# Altium footprint library Xilinx.PcbLib: 3 footprints (part 2 of 3)
Each footprint in its own frame and in the unit in brackets; x right, y up, seen from the top. Pads: shape width x height; smd on the part's side, far side on the other; paste and mask are expansions set on the pad; w line width, h text height; cw(c..) or ccw(c..) is an arc to the next point about the centre after c.
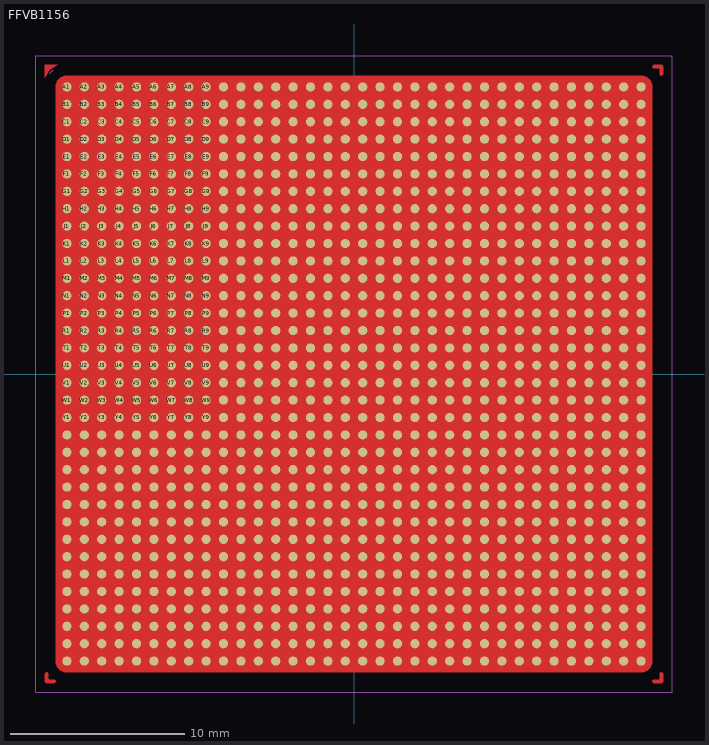
[diagram p1: the footprint, top view; thin cyan lines are the x and y axes]

## FFVB1156 [mm]
height 3.22
pads (1156):
  round 0.533 smd mask+0.051: A1(-16.5,16.5) A2(-15.5,16.5) A3(-14.5,16.5) A4(-13.5,16.5) A5(-12.5,16.5) A6(-11.5,16.5) A7(-10.5,16.5) A8(-9.5,16.5) A9(-8.5,16.5) A10(-7.5,16.5) A11(-6.5,16.5) A12(-5.5,16.5) A13(-4.5,16.5) A14(-3.5,16.5) A15(-2.5,16.5) A16(-1.5,16.5) A17(-0.5,16.5) A18(0.5,16.5) A19(1.5,16.5) A20(2.5,16.5) A21(3.5,16.5) A22(4.5,16.5) A23(5.5,16.5) A24(6.5,16.5) A25(7.5,16.5) A26(8.5,16.5) A27(9.5,16.5) A28(10.5,16.5) A29(11.5,16.5) A30(12.5,16.5) A31(13.5,16.5) A32(14.5,16.5) A33(15.5,16.5) A34(16.5,16.5) AA1(-16.5,-3.5) AA2(-15.5,-3.5) AA3(-14.5,-3.5) AA4(-13.5,-3.5) AA5(-12.5,-3.5) AA6(-11.5,-3.5) AA7(-10.5,-3.5) AA8(-9.5,-3.5) AA9(-8.5,-3.5) AA10(-7.5,-3.5) AA11(-6.5,-3.5) AA12(-5.5,-3.5) AA13(-4.5,-3.5) AA14(-3.5,-3.5) AA15(-2.5,-3.5) AA16(-1.5,-3.5) AA17(-0.5,-3.5) AA18(0.5,-3.5) AA19(1.5,-3.5) AA20(2.5,-3.5) AA21(3.5,-3.5) AA22(4.5,-3.5) AA23(5.5,-3.5) AA24(6.5,-3.5) AA25(7.5,-3.5) AA26(8.5,-3.5) AA27(9.5,-3.5) AA28(10.5,-3.5) AA29(11.5,-3.5) AA30(12.5,-3.5) AA31(13.5,-3.5) AA32(14.5,-3.5) AA33(15.5,-3.5) AA34(16.5,-3.5) AB1(-16.5,-4.5) AB2(-15.5,-4.5) AB3(-14.5,-4.5) AB4(-13.5,-4.5) AB5(-12.5,-4.5) AB6(-11.5,-4.5) AB7(-10.5,-4.5) AB8(-9.5,-4.5) AB9(-8.5,-4.5) AB10(-7.5,-4.5) AB11(-6.5,-4.5) AB12(-5.5,-4.5) AB13(-4.5,-4.5) AB14(-3.5,-4.5) AB15(-2.5,-4.5) AB16(-1.5,-4.5) AB17(-0.5,-4.5) AB18(0.5,-4.5) AB19(1.5,-4.5) AB20(2.5,-4.5) AB21(3.5,-4.5) AB22(4.5,-4.5) AB23(5.5,-4.5) AB24(6.5,-4.5) AB25(7.5,-4.5) AB26(8.5,-4.5) AB27(9.5,-4.5) AB28(10.5,-4.5) AB29(11.5,-4.5) AB30(12.5,-4.5) AB31(13.5,-4.5) AB32(14.5,-4.5) AB33(15.5,-4.5) AB34(16.5,-4.5) AC1(-16.5,-5.5) AC2(-15.5,-5.5) AC3(-14.5,-5.5) AC4(-13.5,-5.5) AC5(-12.5,-5.5) AC6(-11.5,-5.5) AC7(-10.5,-5.5) AC8(-9.5,-5.5) AC9(-8.5,-5.5) AC10(-7.5,-5.5) AC11(-6.5,-5.5) AC12(-5.5,-5.5) AC13(-4.5,-5.5) AC14(-3.5,-5.5) AC15(-2.5,-5.5) AC16(-1.5,-5.5) AC17(-0.5,-5.5) AC18(0.5,-5.5) AC19(1.5,-5.5) AC20(2.5,-5.5) AC21(3.5,-5.5) AC22(4.5,-5.5) AC23(5.5,-5.5) AC24(6.5,-5.5) AC25(7.5,-5.5) AC26(8.5,-5.5) AC27(9.5,-5.5) AC28(10.5,-5.5) AC29(11.5,-5.5) AC30(12.5,-5.5) AC31(13.5,-5.5) AC32(14.5,-5.5) AC33(15.5,-5.5) AC34(16.5,-5.5) AD1(-16.5,-6.5) AD2(-15.5,-6.5) AD3(-14.5,-6.5) AD4(-13.5,-6.5) AD5(-12.5,-6.5) AD6(-11.5,-6.5) AD7(-10.5,-6.5) AD8(-9.5,-6.5) AD9(-8.5,-6.5) AD10(-7.5,-6.5) AD11(-6.5,-6.5) AD12(-5.5,-6.5) AD13(-4.5,-6.5) AD14(-3.5,-6.5) AD15(-2.5,-6.5) AD16(-1.5,-6.5) AD17(-0.5,-6.5) AD18(0.5,-6.5) AD19(1.5,-6.5) AD20(2.5,-6.5) AD21(3.5,-6.5) AD22(4.5,-6.5) AD23(5.5,-6.5) AD24(6.5,-6.5) AD25(7.5,-6.5) AD26(8.5,-6.5) AD27(9.5,-6.5) AD28(10.5,-6.5) AD29(11.5,-6.5) AD30(12.5,-6.5) AD31(13.5,-6.5) AD32(14.5,-6.5) AD33(15.5,-6.5) AD34(16.5,-6.5) AE1(-16.5,-7.5) AE2(-15.5,-7.5) AE3(-14.5,-7.5) AE4(-13.5,-7.5) AE5(-12.5,-7.5) AE6(-11.5,-7.5) AE7(-10.5,-7.5) AE8(-9.5,-7.5) AE9(-8.5,-7.5) AE10(-7.5,-7.5) AE11(-6.5,-7.5) AE12(-5.5,-7.5) AE13(-4.5,-7.5) AE14(-3.5,-7.5) AE15(-2.5,-7.5) AE16(-1.5,-7.5) AE17(-0.5,-7.5) AE18(0.5,-7.5) AE19(1.5,-7.5) AE20(2.5,-7.5) AE21(3.5,-7.5) AE22(4.5,-7.5) AE23(5.5,-7.5) AE24(6.5,-7.5) AE25(7.5,-7.5) AE26(8.5,-7.5) AE27(9.5,-7.5) AE28(10.5,-7.5) AE29(11.5,-7.5) AE30(12.5,-7.5) AE31(13.5,-7.5) AE32(14.5,-7.5) AE33(15.5,-7.5) AE34(16.5,-7.5) AF1(-16.5,-8.5) AF2(-15.5,-8.5) AF3(-14.5,-8.5) AF4(-13.5,-8.5) AF5(-12.5,-8.5) AF6(-11.5,-8.5) AF7(-10.5,-8.5) AF8(-9.5,-8.5) AF9(-8.5,-8.5) AF10(-7.5,-8.5) AF11(-6.5,-8.5) AF12(-5.5,-8.5) AF13(-4.5,-8.5) AF14(-3.5,-8.5) AF15(-2.5,-8.5) AF16(-1.5,-8.5) AF17(-0.5,-8.5) AF18(0.5,-8.5) AF19(1.5,-8.5) AF20(2.5,-8.5) AF21(3.5,-8.5) AF22(4.5,-8.5) AF23(5.5,-8.5) AF24(6.5,-8.5) AF25(7.5,-8.5) AF26(8.5,-8.5) AF27(9.5,-8.5) AF28(10.5,-8.5) AF29(11.5,-8.5) AF30(12.5,-8.5) AF31(13.5,-8.5) AF32(14.5,-8.5) AF33(15.5,-8.5) AF34(16.5,-8.5) AG1(-16.5,-9.5) AG2(-15.5,-9.5) AG3(-14.5,-9.5) AG4(-13.5,-9.5) AG5(-12.5,-9.5) AG6(-11.5,-9.5) AG7(-10.5,-9.5) AG8(-9.5,-9.5) AG9(-8.5,-9.5) AG10(-7.5,-9.5) AG11(-6.5,-9.5) AG12(-5.5,-9.5) AG13(-4.5,-9.5) AG14(-3.5,-9.5) AG15(-2.5,-9.5) AG16(-1.5,-9.5) AG17(-0.5,-9.5) AG18(0.5,-9.5) AG19(1.5,-9.5) AG20(2.5,-9.5) AG21(3.5,-9.5) AG22(4.5,-9.5) AG23(5.5,-9.5) AG24(6.5,-9.5) AG25(7.5,-9.5) AG26(8.5,-9.5) AG27(9.5,-9.5) AG28(10.5,-9.5) AG29(11.5,-9.5) AG30(12.5,-9.5) AG31(13.5,-9.5) AG32(14.5,-9.5) AG33(15.5,-9.5) AG34(16.5,-9.5) AH1(-16.5,-10.5) AH2(-15.5,-10.5) AH3(-14.5,-10.5) AH4(-13.5,-10.5) AH5(-12.5,-10.5) AH6(-11.5,-10.5) AH7(-10.5,-10.5) AH8(-9.5,-10.5) AH9(-8.5,-10.5) AH10(-7.5,-10.5) AH11(-6.5,-10.5) AH12(-5.5,-10.5) AH13(-4.5,-10.5) AH14(-3.5,-10.5) AH15(-2.5,-10.5) AH16(-1.5,-10.5) AH17(-0.5,-10.5) AH18(0.5,-10.5) AH19(1.5,-10.5) AH20(2.5,-10.5) AH21(3.5,-10.5) AH22(4.5,-10.5) AH23(5.5,-10.5) AH24(6.5,-10.5) AH25(7.5,-10.5) AH26(8.5,-10.5) AH27(9.5,-10.5) AH28(10.5,-10.5) AH29(11.5,-10.5) AH30(12.5,-10.5) AH31(13.5,-10.5) AH32(14.5,-10.5) AH33(15.5,-10.5) AH34(16.5,-10.5) AJ1(-16.5,-11.5) AJ2(-15.5,-11.5) AJ3(-14.5,-11.5) AJ4(-13.5,-11.5) AJ5(-12.5,-11.5) AJ6(-11.5,-11.5) AJ7(-10.5,-11.5) AJ8(-9.5,-11.5) AJ9(-8.5,-11.5) AJ10(-7.5,-11.5) AJ11(-6.5,-11.5) AJ12(-5.5,-11.5) AJ13(-4.5,-11.5) AJ14(-3.5,-11.5) AJ15(-2.5,-11.5) AJ16(-1.5,-11.5) AJ17(-0.5,-11.5) AJ18(0.5,-11.5) AJ19(1.5,-11.5) AJ20(2.5,-11.5) AJ21(3.5,-11.5) AJ22(4.5,-11.5) AJ23(5.5,-11.5) AJ24(6.5,-11.5) AJ25(7.5,-11.5) AJ26(8.5,-11.5) AJ27(9.5,-11.5) AJ28(10.5,-11.5) AJ29(11.5,-11.5) AJ30(12.5,-11.5) AJ31(13.5,-11.5) AJ32(14.5,-11.5) AJ33(15.5,-11.5) AJ34(16.5,-11.5) AK1(-16.5,-12.5) AK2(-15.5,-12.5) AK3(-14.5,-12.5) AK4(-13.5,-12.5) AK5(-12.5,-12.5) AK6(-11.5,-12.5) AK7(-10.5,-12.5) AK8(-9.5,-12.5) AK9(-8.5,-12.5) AK10(-7.5,-12.5) AK11(-6.5,-12.5) AK12(-5.5,-12.5) AK13(-4.5,-12.5) AK14(-3.5,-12.5) AK15(-2.5,-12.5) AK16(-1.5,-12.5) AK17(-0.5,-12.5) AK18(0.5,-12.5) AK19(1.5,-12.5) AK20(2.5,-12.5) AK21(3.5,-12.5) AK22(4.5,-12.5) AK23(5.5,-12.5) AK24(6.5,-12.5) AK25(7.5,-12.5) AK26(8.5,-12.5) AK27(9.5,-12.5) AK28(10.5,-12.5) AK29(11.5,-12.5) AK30(12.5,-12.5) AK31(13.5,-12.5) AK32(14.5,-12.5) AK33(15.5,-12.5) AK34(16.5,-12.5) AL1(-16.5,-13.5) AL2(-15.5,-13.5) AL3(-14.5,-13.5) AL4(-13.5,-13.5) AL5(-12.5,-13.5) AL6(-11.5,-13.5) AL7(-10.5,-13.5) AL8(-9.5,-13.5) AL9(-8.5,-13.5) AL10(-7.5,-13.5) AL11(-6.5,-13.5) AL12(-5.5,-13.5) AL13(-4.5,-13.5) AL14(-3.5,-13.5) AL15(-2.5,-13.5) AL16(-1.5,-13.5) AL17(-0.5,-13.5) AL18(0.5,-13.5) AL19(1.5,-13.5) AL20(2.5,-13.5) AL21(3.5,-13.5) AL22(4.5,-13.5) AL23(5.5,-13.5) AL24(6.5,-13.5) AL25(7.5,-13.5) AL26(8.5,-13.5) AL27(9.5,-13.5) AL28(10.5,-13.5) AL29(11.5,-13.5) AL30(12.5,-13.5) AL31(13.5,-13.5) AL32(14.5,-13.5) AL33(15.5,-13.5) AL34(16.5,-13.5) AM1(-16.5,-14.5) AM2(-15.5,-14.5) AM3(-14.5,-14.5) AM4(-13.5,-14.5) AM5(-12.5,-14.5) AM6(-11.5,-14.5) AM7(-10.5,-14.5) AM8(-9.5,-14.5) AM9(-8.5,-14.5) AM10(-7.5,-14.5) AM11(-6.5,-14.5) AM12(-5.5,-14.5) AM13(-4.5,-14.5) AM14(-3.5,-14.5) AM15(-2.5,-14.5) AM16(-1.5,-14.5) AM17(-0.5,-14.5) AM18(0.5,-14.5) AM19(1.5,-14.5) AM20(2.5,-14.5) AM21(3.5,-14.5) AM22(4.5,-14.5) AM23(5.5,-14.5) AM24(6.5,-14.5) AM25(7.5,-14.5) AM26(8.5,-14.5) AM27(9.5,-14.5) AM28(10.5,-14.5) AM29(11.5,-14.5) AM30(12.5,-14.5) AM31(13.5,-14.5) AM32(14.5,-14.5) AM33(15.5,-14.5) AM34(16.5,-14.5) AN1(-16.5,-15.5) AN2(-15.5,-15.5) AN3(-14.5,-15.5) AN4(-13.5,-15.5) AN5(-12.5,-15.5) AN6(-11.5,-15.5) AN7(-10.5,-15.5) AN8(-9.5,-15.5) AN9(-8.5,-15.5) AN10(-7.5,-15.5) AN11(-6.5,-15.5) AN12(-5.5,-15.5) AN13(-4.5,-15.5) AN14(-3.5,-15.5) AN15(-2.5,-15.5) AN16(-1.5,-15.5) AN17(-0.5,-15.5) AN18(0.5,-15.5) AN19(1.5,-15.5) AN20(2.5,-15.5) AN21(3.5,-15.5) AN22(4.5,-15.5) AN23(5.5,-15.5) AN24(6.5,-15.5) AN25(7.5,-15.5) AN26(8.5,-15.5) AN27(9.5,-15.5) AN28(10.5,-15.5) AN29(11.5,-15.5) AN30(12.5,-15.5) AN31(13.5,-15.5) AN32(14.5,-15.5) AN33(15.5,-15.5) AN34(16.5,-15.5) AP1(-16.5,-16.5) AP2(-15.5,-16.5) AP3(-14.5,-16.5) AP4(-13.5,-16.5) AP5(-12.5,-16.5) AP6(-11.5,-16.5) AP7(-10.5,-16.5) AP8(-9.5,-16.5) AP9(-8.5,-16.5) AP10(-7.5,-16.5) AP11(-6.5,-16.5) AP12(-5.5,-16.5) AP13(-4.5,-16.5) AP14(-3.5,-16.5) AP15(-2.5,-16.5) AP16(-1.5,-16.5) AP17(-0.5,-16.5) AP18(0.5,-16.5) AP19(1.5,-16.5) AP20(2.5,-16.5) AP21(3.5,-16.5) AP22(4.5,-16.5) AP23(5.5,-16.5) AP24(6.5,-16.5) AP25(7.5,-16.5) AP26(8.5,-16.5) AP27(9.5,-16.5) AP28(10.5,-16.5) AP29(11.5,-16.5) AP30(12.5,-16.5) AP31(13.5,-16.5) AP32(14.5,-16.5) AP33(15.5,-16.5) AP34(16.5,-16.5) B1(-16.5,15.5) B2(-15.5,15.5) B3(-14.5,15.5) B4(-13.5,15.5) B5(-12.5,15.5) B6(-11.5,15.5) B7(-10.5,15.5) B8(-9.5,15.5) B9(-8.5,15.5) B10(-7.5,15.5) B11(-6.5,15.5) B12(-5.5,15.5) B13(-4.5,15.5) B14(-3.5,15.5) B15(-2.5,15.5) B16(-1.5,15.5) B17(-0.5,15.5) B18(0.5,15.5) B19(1.5,15.5) B20(2.5,15.5) B21(3.5,15.5) B22(4.5,15.5) B23(5.5,15.5) B24(6.5,15.5) B25(7.5,15.5) B26(8.5,15.5) B27(9.5,15.5) B28(10.5,15.5) B29(11.5,15.5) B30(12.5,15.5) B31(13.5,15.5) B32(14.5,15.5) B33(15.5,15.5) B34(16.5,15.5) C1(-16.5,14.5) C2(-15.5,14.5) C3(-14.5,14.5) C4(-13.5,14.5) C5(-12.5,14.5) C6(-11.5,14.5) C7(-10.5,14.5) C8(-9.5,14.5) C9(-8.5,14.5) C10(-7.5,14.5) C11(-6.5,14.5) C12(-5.5,14.5) C13(-4.5,14.5) C14(-3.5,14.5) C15(-2.5,14.5) C16(-1.5,14.5) C17(-0.5,14.5) C18(0.5,14.5) C19(1.5,14.5) C20(2.5,14.5) C21(3.5,14.5) C22(4.5,14.5) C23(5.5,14.5) C24(6.5,14.5) C25(7.5,14.5) C26(8.5,14.5) C27(9.5,14.5) C28(10.5,14.5) C29(11.5,14.5) C30(12.5,14.5) C31(13.5,14.5) C32(14.5,14.5) C33(15.5,14.5) C34(16.5,14.5) D1(-16.5,13.5) D2(-15.5,13.5) D3(-14.5,13.5) D4(-13.5,13.5) D5(-12.5,13.5) D6(-11.5,13.5) D7(-10.5,13.5) D8(-9.5,13.5) D9(-8.5,13.5) D10(-7.5,13.5) D11(-6.5,13.5) D12(-5.5,13.5) D13(-4.5,13.5) D14(-3.5,13.5) D15(-2.5,13.5) D16(-1.5,13.5) D17(-0.5,13.5) D18(0.5,13.5) D19(1.5,13.5) D20(2.5,13.5) D21(3.5,13.5) D22(4.5,13.5) D23(5.5,13.5) D24(6.5,13.5) D25(7.5,13.5) D26(8.5,13.5) D27(9.5,13.5) D28(10.5,13.5) D29(11.5,13.5) D30(12.5,13.5) D31(13.5,13.5) D32(14.5,13.5) D33(15.5,13.5) D34(16.5,13.5) E1(-16.5,12.5) E2(-15.5,12.5) E3(-14.5,12.5) E4(-13.5,12.5) E5(-12.5,12.5) E6(-11.5,12.5) E7(-10.5,12.5) E8(-9.5,12.5) E9(-8.5,12.5) E10(-7.5,12.5) E11(-6.5,12.5) E12(-5.5,12.5) E13(-4.5,12.5) E14(-3.5,12.5) E15(-2.5,12.5) E16(-1.5,12.5) E17(-0.5,12.5) E18(0.5,12.5) E19(1.5,12.5) E20(2.5,12.5) E21(3.5,12.5) E22(4.5,12.5) E23(5.5,12.5) E24(6.5,12.5) E25(7.5,12.5) E26(8.5,12.5) E27(9.5,12.5) E28(10.5,12.5) E29(11.5,12.5) E30(12.5,12.5) E31(13.5,12.5) E32(14.5,12.5) E33(15.5,12.5) E34(16.5,12.5) F1(-16.5,11.5) F2(-15.5,11.5) F3(-14.5,11.5) F4(-13.5,11.5) F5(-12.5,11.5) F6(-11.5,11.5) F7(-10.5,11.5) F8(-9.5,11.5) F9(-8.5,11.5) F10(-7.5,11.5) F11(-6.5,11.5) F12(-5.5,11.5) F13(-4.5,11.5) F14(-3.5,11.5) F15(-2.5,11.5) F16(-1.5,11.5) F17(-0.5,11.5) F18(0.5,11.5) F19(1.5,11.5) F20(2.5,11.5) F21(3.5,11.5) F22(4.5,11.5) F23(5.5,11.5) F24(6.5,11.5) F25(7.5,11.5) F26(8.5,11.5) F27(9.5,11.5) F28(10.5,11.5) F29(11.5,11.5) F30(12.5,11.5) F31(13.5,11.5) F32(14.5,11.5) F33(15.5,11.5) F34(16.5,11.5) G1(-16.5,10.5) G2(-15.5,10.5) G3(-14.5,10.5) G4(-13.5,10.5) G5(-12.5,10.5) G6(-11.5,10.5) G7(-10.5,10.5) G8(-9.5,10.5) G9(-8.5,10.5) G10(-7.5,10.5) G11(-6.5,10.5) G12(-5.5,10.5) G13(-4.5,10.5) G14(-3.5,10.5) G15(-2.5,10.5) G16(-1.5,10.5) G17(-0.5,10.5) G18(0.5,10.5) G19(1.5,10.5) G20(2.5,10.5) G21(3.5,10.5) G22(4.5,10.5) G23(5.5,10.5) G24(6.5,10.5) G25(7.5,10.5) G26(8.5,10.5) G27(9.5,10.5) G28(10.5,10.5) G29(11.5,10.5) G30(12.5,10.5) G31(13.5,10.5) G32(14.5,10.5) G33(15.5,10.5) G34(16.5,10.5) H1(-16.5,9.5) H2(-15.5,9.5) H3(-14.5,9.5) H4(-13.5,9.5) H5(-12.5,9.5) H6(-11.5,9.5) H7(-10.5,9.5) H8(-9.5,9.5) H9(-8.5,9.5) H10(-7.5,9.5) H11(-6.5,9.5) H12(-5.5,9.5) H13(-4.5,9.5) H14(-3.5,9.5) H15(-2.5,9.5) H16(-1.5,9.5) H17(-0.5,9.5) H18(0.5,9.5) H19(1.5,9.5) H20(2.5,9.5) H21(3.5,9.5) H22(4.5,9.5) H23(5.5,9.5) H24(6.5,9.5) H25(7.5,9.5) H26(8.5,9.5) H27(9.5,9.5) H28(10.5,9.5) H29(11.5,9.5) H30(12.5,9.5) H31(13.5,9.5) H32(14.5,9.5) H33(15.5,9.5) H34(16.5,9.5) J1(-16.5,8.5) J2(-15.5,8.5) J3(-14.5,8.5) J4(-13.5,8.5) J5(-12.5,8.5) J6(-11.5,8.5) J7(-10.5,8.5) J8(-9.5,8.5) J9(-8.5,8.5) J10(-7.5,8.5) J11(-6.5,8.5) J12(-5.5,8.5) J13(-4.5,8.5) J14(-3.5,8.5) J15(-2.5,8.5) J16(-1.5,8.5) J17(-0.5,8.5) J18(0.5,8.5) J19(1.5,8.5) J20(2.5,8.5) J21(3.5,8.5) J22(4.5,8.5) J23(5.5,8.5) J24(6.5,8.5) J25(7.5,8.5) J26(8.5,8.5) J27(9.5,8.5) J28(10.5,8.5) J29(11.5,8.5) J30(12.5,8.5) J31(13.5,8.5) J32(14.5,8.5) J33(15.5,8.5) J34(16.5,8.5) K1(-16.5,7.5) K2(-15.5,7.5) K3(-14.5,7.5) K4(-13.5,7.5) K5(-12.5,7.5) K6(-11.5,7.5) K7(-10.5,7.5) K8(-9.5,7.5) K9(-8.5,7.5) K10(-7.5,7.5) K11(-6.5,7.5) K12(-5.5,7.5) K13(-4.5,7.5) K14(-3.5,7.5) K15(-2.5,7.5) K16(-1.5,7.5) K17(-0.5,7.5) K18(0.5,7.5) K19(1.5,7.5) K20(2.5,7.5) K21(3.5,7.5) K22(4.5,7.5) K23(5.5,7.5) K24(6.5,7.5) K25(7.5,7.5) K26(8.5,7.5) K27(9.5,7.5) K28(10.5,7.5) K29(11.5,7.5) K30(12.5,7.5) K31(13.5,7.5) K32(14.5,7.5) K33(15.5,7.5) K34(16.5,7.5) L1(-16.5,6.5) L2(-15.5,6.5) L3(-14.5,6.5) L4(-13.5,6.5) L5(-12.5,6.5) L6(-11.5,6.5) L7(-10.5,6.5) L8(-9.5,6.5) L9(-8.5,6.5) L10(-7.5,6.5) L11(-6.5,6.5) L12(-5.5,6.5) L13(-4.5,6.5) L14(-3.5,6.5) L15(-2.5,6.5) L16(-1.5,6.5) L17(-0.5,6.5) L18(0.5,6.5) L19(1.5,6.5) L20(2.5,6.5) L21(3.5,6.5) L22(4.5,6.5) L23(5.5,6.5) L24(6.5,6.5) L25(7.5,6.5) L26(8.5,6.5) L27(9.5,6.5) L28(10.5,6.5) L29(11.5,6.5) L30(12.5,6.5) L31(13.5,6.5) L32(14.5,6.5) L33(15.5,6.5) L34(16.5,6.5) M1(-16.5,5.5) M2(-15.5,5.5) M3(-14.5,5.5) M4(-13.5,5.5) M5(-12.5,5.5) M6(-11.5,5.5) M7(-10.5,5.5) M8(-9.5,5.5) M9(-8.5,5.5) M10(-7.5,5.5) M11(-6.5,5.5) M12(-5.5,5.5) M13(-4.5,5.5) M14(-3.5,5.5) M15(-2.5,5.5) M16(-1.5,5.5) M17(-0.5,5.5) M18(0.5,5.5) M19(1.5,5.5) M20(2.5,5.5) M21(3.5,5.5) M22(4.5,5.5) M23(5.5,5.5) M24(6.5,5.5) M25(7.5,5.5) M26(8.5,5.5) M27(9.5,5.5) M28(10.5,5.5) M29(11.5,5.5) M30(12.5,5.5) M31(13.5,5.5) M32(14.5,5.5) M33(15.5,5.5) M34(16.5,5.5) N1(-16.5,4.5) N2(-15.5,4.5) N3(-14.5,4.5) N4(-13.5,4.5) N5(-12.5,4.5) N6(-11.5,4.5) N7(-10.5,4.5) N8(-9.5,4.5) N9(-8.5,4.5) N10(-7.5,4.5) N11(-6.5,4.5) N12(-5.5,4.5) N13(-4.5,4.5) N14(-3.5,4.5) N15(-2.5,4.5) N16(-1.5,4.5) N17(-0.5,4.5) N18(0.5,4.5) N19(1.5,4.5) N20(2.5,4.5) N21(3.5,4.5) N22(4.5,4.5) N23(5.5,4.5) N24(6.5,4.5) N25(7.5,4.5) N26(8.5,4.5) N27(9.5,4.5) N28(10.5,4.5) N29(11.5,4.5) N30(12.5,4.5) N31(13.5,4.5) N32(14.5,4.5) N33(15.5,4.5) N34(16.5,4.5) P1(-16.5,3.5) P2(-15.5,3.5) P3(-14.5,3.5) P4(-13.5,3.5) P5(-12.5,3.5) P6(-11.5,3.5) P7(-10.5,3.5) P8(-9.5,3.5) P9(-8.5,3.5) P10(-7.5,3.5) P11(-6.5,3.5) P12(-5.5,3.5) P13(-4.5,3.5) P14(-3.5,3.5) P15(-2.5,3.5) P16(-1.5,3.5) P17(-0.5,3.5) P18(0.5,3.5) P19(1.5,3.5) P20(2.5,3.5) P21(3.5,3.5) P22(4.5,3.5) P23(5.5,3.5) P24(6.5,3.5) P25(7.5,3.5) P26(8.5,3.5) P27(9.5,3.5) P28(10.5,3.5) P29(11.5,3.5) P30(12.5,3.5) P31(13.5,3.5) P32(14.5,3.5) P33(15.5,3.5) P34(16.5,3.5) R1(-16.5,2.5) R2(-15.5,2.5) R3(-14.5,2.5) R4(-13.5,2.5) R5(-12.5,2.5) R6(-11.5,2.5) R7(-10.5,2.5) R8(-9.5,2.5) R9(-8.5,2.5) R10(-7.5,2.5) R11(-6.5,2.5) R12(-5.5,2.5) R13(-4.5,2.5) R14(-3.5,2.5) R15(-2.5,2.5) R16(-1.5,2.5) R17(-0.5,2.5) R18(0.5,2.5) R19(1.5,2.5) R20(2.5,2.5) R21(3.5,2.5) R22(4.5,2.5) R23(5.5,2.5) R24(6.5,2.5) R25(7.5,2.5) R26(8.5,2.5) R27(9.5,2.5) R28(10.5,2.5) R29(11.5,2.5) R30(12.5,2.5) R31(13.5,2.5) R32(14.5,2.5) R33(15.5,2.5) R34(16.5,2.5) T1(-16.5,1.5) T2(-15.5,1.5) T3(-14.5,1.5) T4(-13.5,1.5) T5(-12.5,1.5) T6(-11.5,1.5) T7(-10.5,1.5) T8(-9.5,1.5) T9(-8.5,1.5) T10(-7.5,1.5) T11(-6.5,1.5) T12(-5.5,1.5) T13(-4.5,1.5) T14(-3.5,1.5) T15(-2.5,1.5) T16(-1.5,1.5) T17(-0.5,1.5) T18(0.5,1.5) T19(1.5,1.5) T20(2.5,1.5) T21(3.5,1.5) T22(4.5,1.5) T23(5.5,1.5) T24(6.5,1.5) T25(7.5,1.5) T26(8.5,1.5) T27(9.5,1.5) T28(10.5,1.5) T29(11.5,1.5) T30(12.5,1.5) T31(13.5,1.5) T32(14.5,1.5) T33(15.5,1.5) T34(16.5,1.5) U1(-16.5,0.5) U2(-15.5,0.5) U3(-14.5,0.5) U4(-13.5,0.5) U5(-12.5,0.5) U6(-11.5,0.5) U7(-10.5,0.5) U8(-9.5,0.5) U9(-8.5,0.5) U10(-7.5,0.5) U11(-6.5,0.5) U12(-5.5,0.5) U13(-4.5,0.5) U14(-3.5,0.5) U15(-2.5,0.5) U16(-1.5,0.5) U17(-0.5,0.5) U18(0.5,0.5) U19(1.5,0.5) U20(2.5,0.5) U21(3.5,0.5) U22(4.5,0.5) U23(5.5,0.5) U24(6.5,0.5) U25(7.5,0.5) U26(8.5,0.5) U27(9.5,0.5) U28(10.5,0.5) U29(11.5,0.5) U30(12.5,0.5) U31(13.5,0.5) U32(14.5,0.5) U33(15.5,0.5) U34(16.5,0.5) V1(-16.5,-0.5) V2(-15.5,-0.5) V3(-14.5,-0.5) V4(-13.5,-0.5) V5(-12.5,-0.5) V6(-11.5,-0.5) V7(-10.5,-0.5) V8(-9.5,-0.5) V9(-8.5,-0.5) V10(-7.5,-0.5) V11(-6.5,-0.5) V12(-5.5,-0.5) V13(-4.5,-0.5) V14(-3.5,-0.5) V15(-2.5,-0.5) V16(-1.5,-0.5) V17(-0.5,-0.5) V18(0.5,-0.5) V19(1.5,-0.5) V20(2.5,-0.5) V21(3.5,-0.5) V22(4.5,-0.5) V23(5.5,-0.5) V24(6.5,-0.5) V25(7.5,-0.5) V26(8.5,-0.5) V27(9.5,-0.5) V28(10.5,-0.5) V29(11.5,-0.5) V30(12.5,-0.5) V31(13.5,-0.5) V32(14.5,-0.5) V33(15.5,-0.5) V34(16.5,-0.5) W1(-16.5,-1.5) W2(-15.5,-1.5) W3(-14.5,-1.5) W4(-13.5,-1.5) W5(-12.5,-1.5) W6(-11.5,-1.5) W7(-10.5,-1.5) W8(-9.5,-1.5) W9(-8.5,-1.5) W10(-7.5,-1.5) W11(-6.5,-1.5) W12(-5.5,-1.5) W13(-4.5,-1.5) W14(-3.5,-1.5) W15(-2.5,-1.5) W16(-1.5,-1.5) W17(-0.5,-1.5) W18(0.5,-1.5) W19(1.5,-1.5) W20(2.5,-1.5) W21(3.5,-1.5) W22(4.5,-1.5) W23(5.5,-1.5) W24(6.5,-1.5) W25(7.5,-1.5) W26(8.5,-1.5) W27(9.5,-1.5) W28(10.5,-1.5) W29(11.5,-1.5) W30(12.5,-1.5) W31(13.5,-1.5) W32(14.5,-1.5) W33(15.5,-1.5) W34(16.5,-1.5) Y1(-16.5,-2.5) Y2(-15.5,-2.5) Y3(-14.5,-2.5) Y4(-13.5,-2.5) Y5(-12.5,-2.5) Y6(-11.5,-2.5) Y7(-10.5,-2.5) Y8(-9.5,-2.5) Y9(-8.5,-2.5) Y10(-7.5,-2.5) Y11(-6.5,-2.5) Y12(-5.5,-2.5) Y13(-4.5,-2.5) Y14(-3.5,-2.5) Y15(-2.5,-2.5) Y16(-1.5,-2.5) Y17(-0.5,-2.5) Y18(0.5,-2.5) Y19(1.5,-2.5) Y20(2.5,-2.5) Y21(3.5,-2.5) Y22(4.5,-2.5) Y23(5.5,-2.5) Y24(6.5,-2.5) Y25(7.5,-2.5) Y26(8.5,-2.5) Y27(9.5,-2.5) Y28(10.5,-2.5) Y29(11.5,-2.5) Y30(12.5,-2.5) Y31(13.5,-2.5) Y32(14.5,-2.5) Y33(15.5,-2.5) Y34(16.5,-2.5)
Top Layer:
  region: -17.766,17.766 -17.766,17.041 -17.5,17.5 -17.041,17.766
  pour cut-out: -16.5,17.145 -16.628,17.145 -16.865,17.047 -17.047,16.865 -17.145,16.628 -17.145,16.5 -17.145,-16.5 -17.145,-16.628 -17.047,-16.865 -16.865,-17.047 -16.628,-17.145 -16.5,-17.145 16.5,-17.145 16.628,-17.145 16.865,-17.047 17.047,-16.865 17.145,-16.628 17.145,-16.5 17.145,16.5 17.145,16.628 17.047,16.865 16.865,17.047 16.628,17.145 16.5,17.145
  region: 17.563,17.258 17.563,17.238 17.578,17.2 17.607,17.172 17.644,17.156 17.664,17.156 17.684,17.156 17.722,17.172 17.75,17.2 17.766,17.238 17.766,17.258 17.766,17.664 17.766,17.684 17.75,17.722 17.722,17.75 17.684,17.766 17.664,17.766 17.258,17.766 17.238,17.766 17.2,17.75 17.172,17.722 17.156,17.684 17.156,17.664 17.156,17.644 17.172,17.607 17.2,17.578 17.238,17.563 17.258,17.563 17.512,17.563 17.522,17.562 17.54,17.554 17.554,17.54 17.562,17.522 17.563,17.512
  region: 17.258,-17.563 17.238,-17.563 17.2,-17.578 17.172,-17.607 17.156,-17.644 17.156,-17.664 17.156,-17.684 17.172,-17.722 17.2,-17.75 17.238,-17.766 17.258,-17.766 17.664,-17.766 17.684,-17.766 17.722,-17.75 17.75,-17.722 17.766,-17.684 17.766,-17.664 17.766,-17.258 17.766,-17.238 17.75,-17.2 17.722,-17.172 17.684,-17.156 17.664,-17.156 17.644,-17.156 17.607,-17.172 17.578,-17.2 17.563,-17.238 17.563,-17.258 17.563,-17.512 17.562,-17.522 17.554,-17.54 17.54,-17.554 17.522,-17.562 17.512,-17.563
  region: -17.563,-17.258 -17.563,-17.238 -17.578,-17.2 -17.607,-17.172 -17.644,-17.156 -17.664,-17.156 -17.684,-17.156 -17.722,-17.172 -17.75,-17.2 -17.766,-17.238 -17.766,-17.258 -17.766,-17.664 -17.766,-17.684 -17.75,-17.722 -17.722,-17.75 -17.684,-17.766 -17.664,-17.766 -17.258,-17.766 -17.238,-17.766 -17.2,-17.75 -17.172,-17.722 -17.156,-17.684 -17.156,-17.664 -17.156,-17.644 -17.172,-17.607 -17.2,-17.578 -17.238,-17.563 -17.258,-17.563 -17.512,-17.563 -17.522,-17.562 -17.54,-17.554 -17.554,-17.54 -17.562,-17.522 -17.563,-17.512
Top Designator:
  text ".Designator" at -3.242,-0.317 h0.89
Top Courtyard:
  lines w0.025: -18.288,-18.288 18.288,-18.288 18.288,18.288 -18.288,18.288 -18.288,-18.288
Top Component Outline:
  lines w0.025: -17.5,17.297 -17.297,17.5 ; -15,14 -14,15
3D body: height 3.22, standoff 2.4, extent -15,-15 15,15
3D body: height 0.55, standoff -0.05, extent -8.798,7.2 -8.202,7.8
3D body: height 0.55, standoff -0.05, extent -9.798,7.2 -9.202,7.8
3D body: height 0.55, standoff -0.05, extent -10.798,7.2 -10.202,7.8
3D body: height 0.55, standoff -0.05, extent -11.798,7.2 -11.202,7.8
3D body: height 0.55, standoff -0.05, extent -12.798,7.2 -12.202,7.8
3D body: height 0.55, standoff -0.05, extent -13.798,7.2 -13.202,7.8
3D body: height 0.55, standoff -0.05, extent -14.798,7.2 -14.202,7.8
3D body: height 0.55, standoff -0.05, extent -15.798,7.2 -15.202,7.8
3D body: height 0.55, standoff -0.05, extent -16.798,7.2 -16.202,7.8
3D body: height 0.55, standoff -0.05, extent 0.202,7.2 0.798,7.8
3D body: height 0.55, standoff -0.05, extent -0.798,7.2 -0.202,7.8
3D body: height 0.55, standoff -0.05, extent -1.798,7.2 -1.202,7.8
3D body: height 0.55, standoff -0.05, extent -2.798,7.2 -2.202,7.8
3D body: height 0.55, standoff -0.05, extent -3.798,7.2 -3.202,7.8
3D body: height 0.55, standoff -0.05, extent -4.798,7.2 -4.202,7.8
3D body: height 0.55, standoff -0.05, extent -5.798,7.2 -5.202,7.8
3D body: height 0.55, standoff -0.05, extent -6.798,7.2 -6.202,7.8
3D body: height 0.55, standoff -0.05, extent -7.798,7.2 -7.202,7.8
3D body: height 0.55, standoff -0.05, extent 8.202,7.2 8.798,7.8
3D body: height 0.55, standoff -0.05, extent 7.202,7.2 7.798,7.8
3D body: height 0.55, standoff -0.05, extent 6.202,7.2 6.798,7.8
3D body: height 0.55, standoff -0.05, extent 5.202,7.2 5.798,7.8
3D body: height 0.55, standoff -0.05, extent 4.202,7.2 4.798,7.8
3D body: height 0.55, standoff -0.05, extent 3.202,7.2 3.798,7.8
3D body: height 0.55, standoff -0.05, extent 2.202,7.2 2.798,7.8
3D body: height 0.55, standoff -0.05, extent 1.202,7.2 1.798,7.8
3D body: height 0.55, standoff -0.05, extent -8.798,8.2 -8.202,8.8
3D body: height 0.55, standoff -0.05, extent -9.798,8.2 -9.202,8.8
3D body: height 0.55, standoff -0.05, extent -10.798,8.2 -10.202,8.8
3D body: height 0.55, standoff -0.05, extent -11.798,8.2 -11.202,8.8
3D body: height 0.55, standoff -0.05, extent -12.798,8.2 -12.202,8.8
3D body: height 0.55, standoff -0.05, extent -13.798,8.2 -13.202,8.8
3D body: height 0.55, standoff -0.05, extent -14.798,8.2 -14.202,8.8
3D body: height 0.55, standoff -0.05, extent -15.798,8.2 -15.202,8.8
3D body: height 0.55, standoff -0.05, extent -16.798,8.2 -16.202,8.8
3D body: height 0.55, standoff -0.05, extent 0.202,8.2 0.798,8.8
3D body: height 0.55, standoff -0.05, extent -0.798,8.2 -0.202,8.8
3D body: height 0.55, standoff -0.05, extent -1.798,8.2 -1.202,8.8
3D body: height 0.55, standoff -0.05, extent -2.798,8.2 -2.202,8.8
3D body: height 0.55, standoff -0.05, extent -3.798,8.2 -3.202,8.8
3D body: height 0.55, standoff -0.05, extent -4.798,8.2 -4.202,8.8
3D body: height 0.55, standoff -0.05, extent -5.798,8.2 -5.202,8.8
3D body: height 0.55, standoff -0.05, extent -6.798,8.2 -6.202,8.8
3D body: height 0.55, standoff -0.05, extent -7.798,8.2 -7.202,8.8
3D body: height 0.55, standoff -0.05, extent 8.202,8.2 8.798,8.8
3D body: height 0.55, standoff -0.05, extent 7.202,8.2 7.798,8.8
3D body: height 0.55, standoff -0.05, extent 6.202,8.2 6.798,8.8
3D body: height 0.55, standoff -0.05, extent 5.202,8.2 5.798,8.8
3D body: height 0.55, standoff -0.05, extent 4.202,8.2 4.798,8.8
3D body: height 0.55, standoff -0.05, extent 3.202,8.2 3.798,8.8
3D body: height 0.55, standoff -0.05, extent 2.202,8.2 2.798,8.8
3D body: height 0.55, standoff -0.05, extent 1.202,8.2 1.798,8.8
3D body: height 0.55, standoff -0.05, extent -8.798,9.2 -8.202,9.8
3D body: height 0.55, standoff -0.05, extent -9.798,9.2 -9.202,9.8
3D body: height 0.55, standoff -0.05, extent -10.798,9.2 -10.202,9.8
3D body: height 0.55, standoff -0.05, extent -11.798,9.2 -11.202,9.8
3D body: height 0.55, standoff -0.05, extent -12.798,9.2 -12.202,9.8
3D body: height 0.55, standoff -0.05, extent -13.798,9.2 -13.202,9.8
3D body: height 0.55, standoff -0.05, extent -14.798,9.2 -14.202,9.8
3D body: height 0.55, standoff -0.05, extent -15.798,9.2 -15.202,9.8
3D body: height 0.55, standoff -0.05, extent -16.798,9.2 -16.202,9.8
3D body: height 0.55, standoff -0.05, extent 0.202,9.2 0.798,9.8
3D body: height 0.55, standoff -0.05, extent -0.798,9.2 -0.202,9.8
3D body: height 0.55, standoff -0.05, extent -1.798,9.2 -1.202,9.8
3D body: height 0.55, standoff -0.05, extent -2.798,9.2 -2.202,9.8
3D body: height 0.55, standoff -0.05, extent -3.798,9.2 -3.202,9.8
3D body: height 0.55, standoff -0.05, extent -4.798,9.2 -4.202,9.8
3D body: height 0.55, standoff -0.05, extent -5.798,9.2 -5.202,9.8
3D body: height 0.55, standoff -0.05, extent -6.798,9.2 -6.202,9.8
3D body: height 0.55, standoff -0.05, extent -7.798,9.2 -7.202,9.8
3D body: height 0.55, standoff -0.05, extent 8.202,9.2 8.798,9.8
3D body: height 0.55, standoff -0.05, extent 7.202,9.2 7.798,9.8
3D body: height 0.55, standoff -0.05, extent 6.202,9.2 6.798,9.8
3D body: height 0.55, standoff -0.05, extent 5.202,9.2 5.798,9.8
3D body: height 0.55, standoff -0.05, extent 4.202,9.2 4.798,9.8
3D body: height 0.55, standoff -0.05, extent 3.202,9.2 3.798,9.8
3D body: height 0.55, standoff -0.05, extent 2.202,9.2 2.798,9.8
3D body: height 0.55, standoff -0.05, extent 1.202,9.2 1.798,9.8
3D body: height 0.55, standoff -0.05, extent -8.798,10.2 -8.202,10.8
3D body: height 0.55, standoff -0.05, extent -9.798,10.2 -9.202,10.8
3D body: height 0.55, standoff -0.05, extent -10.798,10.2 -10.202,10.8
3D body: height 0.55, standoff -0.05, extent -11.798,10.2 -11.202,10.8
3D body: height 0.55, standoff -0.05, extent -12.798,10.2 -12.202,10.8
3D body: height 0.55, standoff -0.05, extent -13.798,10.2 -13.202,10.8
3D body: height 0.55, standoff -0.05, extent -14.798,10.2 -14.202,10.8
3D body: height 0.55, standoff -0.05, extent -15.798,10.2 -15.202,10.8
3D body: height 0.55, standoff -0.05, extent -16.798,10.2 -16.202,10.8
3D body: height 0.55, standoff -0.05, extent 0.202,10.2 0.798,10.8
3D body: height 0.55, standoff -0.05, extent -0.798,10.2 -0.202,10.8
3D body: height 0.55, standoff -0.05, extent -1.798,10.2 -1.202,10.8
3D body: height 0.55, standoff -0.05, extent -2.798,10.2 -2.202,10.8
3D body: height 0.55, standoff -0.05, extent -3.798,10.2 -3.202,10.8
3D body: height 0.55, standoff -0.05, extent -4.798,10.2 -4.202,10.8
3D body: height 0.55, standoff -0.05, extent -5.798,10.2 -5.202,10.8
3D body: height 0.55, standoff -0.05, extent -6.798,10.2 -6.202,10.8
3D body: height 0.55, standoff -0.05, extent -7.798,10.2 -7.202,10.8
3D body: height 0.55, standoff -0.05, extent 8.202,10.2 8.798,10.8
3D body: height 0.55, standoff -0.05, extent 7.202,10.2 7.798,10.8
3D body: height 0.55, standoff -0.05, extent 6.202,10.2 6.798,10.8
3D body: height 0.55, standoff -0.05, extent 5.202,10.2 5.798,10.8
3D body: height 0.55, standoff -0.05, extent 4.202,10.2 4.798,10.8
3D body: height 0.55, standoff -0.05, extent 3.202,10.2 3.798,10.8
3D body: height 0.55, standoff -0.05, extent 2.202,10.2 2.798,10.8
3D body: height 0.55, standoff -0.05, extent 1.202,10.2 1.798,10.8
3D body: height 0.55, standoff -0.05, extent -8.798,11.2 -8.202,11.8
3D body: height 0.55, standoff -0.05, extent -9.798,11.2 -9.202,11.8
3D body: height 0.55, standoff -0.05, extent -10.798,11.2 -10.202,11.8
3D body: height 0.55, standoff -0.05, extent -11.798,11.2 -11.202,11.8
3D body: height 0.55, standoff -0.05, extent -12.798,11.2 -12.202,11.8
3D body: height 0.55, standoff -0.05, extent -13.798,11.2 -13.202,11.8
3D body: height 0.55, standoff -0.05, extent -14.798,11.2 -14.202,11.8
3D body: height 0.55, standoff -0.05, extent -15.798,11.2 -15.202,11.8
3D body: height 0.55, standoff -0.05, extent -16.798,11.2 -16.202,11.8
3D body: height 0.55, standoff -0.05, extent 0.202,11.2 0.798,11.8
3D body: height 0.55, standoff -0.05, extent -0.798,11.2 -0.202,11.8
3D body: height 0.55, standoff -0.05, extent -1.798,11.2 -1.202,11.8
3D body: height 0.55, standoff -0.05, extent -2.798,11.2 -2.202,11.8
3D body: height 0.55, standoff -0.05, extent -3.798,11.2 -3.202,11.8
3D body: height 0.55, standoff -0.05, extent -4.798,11.2 -4.202,11.8
3D body: height 0.55, standoff -0.05, extent -5.798,11.2 -5.202,11.8
3D body: height 0.55, standoff -0.05, extent -6.798,11.2 -6.202,11.8
3D body: height 0.55, standoff -0.05, extent -7.798,11.2 -7.202,11.8
3D body: height 0.55, standoff -0.05, extent 8.202,11.2 8.798,11.8
3D body: height 0.55, standoff -0.05, extent 7.202,11.2 7.798,11.8
3D body: height 0.55, standoff -0.05, extent 6.202,11.2 6.798,11.8
3D body: height 0.55, standoff -0.05, extent 5.202,11.2 5.798,11.8
3D body: height 0.55, standoff -0.05, extent 4.202,11.2 4.798,11.8
3D body: height 0.55, standoff -0.05, extent 3.202,11.2 3.798,11.8
3D body: height 0.55, standoff -0.05, extent 2.202,11.2 2.798,11.8
3D body: height 0.55, standoff -0.05, extent 1.202,11.2 1.798,11.8
3D body: height 0.55, standoff -0.05, extent -8.798,12.2 -8.202,12.8
3D body: height 0.55, standoff -0.05, extent -9.798,12.2 -9.202,12.8
3D body: height 0.55, standoff -0.05, extent -10.798,12.2 -10.202,12.8
3D body: height 0.55, standoff -0.05, extent -11.798,12.2 -11.202,12.8
3D body: height 0.55, standoff -0.05, extent -12.798,12.2 -12.202,12.8
3D body: height 0.55, standoff -0.05, extent -13.798,12.2 -13.202,12.8
3D body: height 0.55, standoff -0.05, extent -14.798,12.2 -14.202,12.8
3D body: height 0.55, standoff -0.05, extent -15.798,12.2 -15.202,12.8
3D body: height 0.55, standoff -0.05, extent -16.798,12.2 -16.202,12.8
3D body: height 0.55, standoff -0.05, extent 0.202,12.2 0.798,12.8
3D body: height 0.55, standoff -0.05, extent -0.798,12.2 -0.202,12.8
3D body: height 0.55, standoff -0.05, extent -1.798,12.2 -1.202,12.8
3D body: height 0.55, standoff -0.05, extent -2.798,12.2 -2.202,12.8
3D body: height 0.55, standoff -0.05, extent -3.798,12.2 -3.202,12.8
3D body: height 0.55, standoff -0.05, extent -4.798,12.2 -4.202,12.8
3D body: height 0.55, standoff -0.05, extent -5.798,12.2 -5.202,12.8
3D body: height 0.55, standoff -0.05, extent -6.798,12.2 -6.202,12.8
3D body: height 0.55, standoff -0.05, extent -7.798,12.2 -7.202,12.8
3D body: height 0.55, standoff -0.05, extent 8.202,12.2 8.798,12.8
3D body: height 0.55, standoff -0.05, extent 7.202,12.2 7.798,12.8
3D body: height 0.55, standoff -0.05, extent 6.202,12.2 6.798,12.8
3D body: height 0.55, standoff -0.05, extent 5.202,12.2 5.798,12.8
3D body: height 0.55, standoff -0.05, extent 4.202,12.2 4.798,12.8
3D body: height 0.55, standoff -0.05, extent 3.202,12.2 3.798,12.8
3D body: height 0.55, standoff -0.05, extent 2.202,12.2 2.798,12.8
3D body: height 0.55, standoff -0.05, extent 1.202,12.2 1.798,12.8
3D body: height 0.55, standoff -0.05, extent -8.798,13.2 -8.202,13.8
3D body: height 0.55, standoff -0.05, extent -9.798,13.2 -9.202,13.8
3D body: height 0.55, standoff -0.05, extent -10.798,13.2 -10.202,13.8
3D body: height 0.55, standoff -0.05, extent -11.798,13.2 -11.202,13.8
3D body: height 0.55, standoff -0.05, extent -12.798,13.2 -12.202,13.8
3D body: height 0.55, standoff -0.05, extent -13.798,13.2 -13.202,13.8
3D body: height 0.55, standoff -0.05, extent -14.798,13.2 -14.202,13.8
3D body: height 0.55, standoff -0.05, extent -15.798,13.2 -15.202,13.8
3D body: height 0.55, standoff -0.05, extent -16.798,13.2 -16.202,13.8
3D body: height 0.55, standoff -0.05, extent 0.202,13.2 0.798,13.8
3D body: height 0.55, standoff -0.05, extent -0.798,13.2 -0.202,13.8
3D body: height 0.55, standoff -0.05, extent -1.798,13.2 -1.202,13.8
3D body: height 0.55, standoff -0.05, extent -2.798,13.2 -2.202,13.8
3D body: height 0.55, standoff -0.05, extent -3.798,13.2 -3.202,13.8
3D body: height 0.55, standoff -0.05, extent -4.798,13.2 -4.202,13.8
3D body: height 0.55, standoff -0.05, extent -5.798,13.2 -5.202,13.8
3D body: height 0.55, standoff -0.05, extent -6.798,13.2 -6.202,13.8
3D body: height 0.55, standoff -0.05, extent -7.798,13.2 -7.202,13.8
3D body: height 0.55, standoff -0.05, extent 8.202,13.2 8.798,13.8
3D body: height 0.55, standoff -0.05, extent 7.202,13.2 7.798,13.8
3D body: height 0.55, standoff -0.05, extent 6.202,13.2 6.798,13.8
3D body: height 0.55, standoff -0.05, extent 5.202,13.2 5.798,13.8
3D body: height 0.55, standoff -0.05, extent 4.202,13.2 4.798,13.8
3D body: height 0.55, standoff -0.05, extent 3.202,13.2 3.798,13.8
3D body: height 0.55, standoff -0.05, extent 2.202,13.2 2.798,13.8
3D body: height 0.55, standoff -0.05, extent 1.202,13.2 1.798,13.8
3D body: height 0.55, standoff -0.05, extent -8.798,14.2 -8.202,14.8
3D body: height 0.55, standoff -0.05, extent -9.798,14.2 -9.202,14.8
3D body: height 0.55, standoff -0.05, extent -10.798,14.2 -10.202,14.8
3D body: height 0.55, standoff -0.05, extent -11.798,14.2 -11.202,14.8
3D body: height 0.55, standoff -0.05, extent -12.798,14.2 -12.202,14.8
3D body: height 0.55, standoff -0.05, extent -13.798,14.2 -13.202,14.8
3D body: height 0.55, standoff -0.05, extent -14.798,14.2 -14.202,14.8
3D body: height 0.55, standoff -0.05, extent -15.798,14.2 -15.202,14.8
3D body: height 0.55, standoff -0.05, extent -16.798,14.2 -16.202,14.8
3D body: height 0.55, standoff -0.05, extent 0.202,14.2 0.798,14.8
3D body: height 0.55, standoff -0.05, extent -0.798,14.2 -0.202,14.8
3D body: height 0.55, standoff -0.05, extent -1.798,14.2 -1.202,14.8
3D body: height 0.55, standoff -0.05, extent -2.798,14.2 -2.202,14.8
3D body: height 0.55, standoff -0.05, extent -3.798,14.2 -3.202,14.8
3D body: height 0.55, standoff -0.05, extent -4.798,14.2 -4.202,14.8
3D body: height 0.55, standoff -0.05, extent -5.798,14.2 -5.202,14.8
3D body: height 0.55, standoff -0.05, extent -6.798,14.2 -6.202,14.8
3D body: height 0.55, standoff -0.05, extent -7.798,14.2 -7.202,14.8
3D body: height 0.55, standoff -0.05, extent 8.202,14.2 8.798,14.8
3D body: height 0.55, standoff -0.05, extent 7.202,14.2 7.798,14.8
3D body: height 0.55, standoff -0.05, extent 6.202,14.2 6.798,14.8
3D body: height 0.55, standoff -0.05, extent 5.202,14.2 5.798,14.8
3D body: height 0.55, standoff -0.05, extent 4.202,14.2 4.798,14.8
3D body: height 0.55, standoff -0.05, extent 3.202,14.2 3.798,14.8
3D body: height 0.55, standoff -0.05, extent 2.202,14.2 2.798,14.8
3D body: height 0.55, standoff -0.05, extent 1.202,14.2 1.798,14.8
3D body: height 0.55, standoff -0.05, extent -8.798,15.2 -8.202,15.8
3D body: height 0.55, standoff -0.05, extent -9.798,15.2 -9.202,15.8
3D body: height 0.55, standoff -0.05, extent -10.798,15.2 -10.202,15.8
3D body: height 0.55, standoff -0.05, extent -11.798,15.2 -11.202,15.8
3D body: height 0.55, standoff -0.05, extent -12.798,15.2 -12.202,15.8
3D body: height 0.55, standoff -0.05, extent -13.798,15.2 -13.202,15.8
3D body: height 0.55, standoff -0.05, extent -14.798,15.2 -14.202,15.8
3D body: height 0.55, standoff -0.05, extent -15.798,15.2 -15.202,15.8
3D body: height 0.55, standoff -0.05, extent -16.798,15.2 -16.202,15.8
3D body: height 0.55, standoff -0.05, extent 0.202,15.2 0.798,15.8
3D body: height 0.55, standoff -0.05, extent -0.798,15.2 -0.202,15.8
3D body: height 0.55, standoff -0.05, extent -1.798,15.2 -1.202,15.8
3D body: height 0.55, standoff -0.05, extent -2.798,15.2 -2.202,15.8
3D body: height 0.55, standoff -0.05, extent -3.798,15.2 -3.202,15.8
3D body: height 0.55, standoff -0.05, extent -4.798,15.2 -4.202,15.8
3D body: height 0.55, standoff -0.05, extent -5.798,15.2 -5.202,15.8
3D body: height 0.55, standoff -0.05, extent -6.798,15.2 -6.202,15.8
3D body: height 0.55, standoff -0.05, extent -7.798,15.2 -7.202,15.8
3D body: height 0.55, standoff -0.05, extent 8.202,15.2 8.798,15.8
3D body: height 0.55, standoff -0.05, extent 7.202,15.2 7.798,15.8
3D body: height 0.55, standoff -0.05, extent 6.202,15.2 6.798,15.8
3D body: height 0.55, standoff -0.05, extent 5.202,15.2 5.798,15.8
3D body: height 0.55, standoff -0.05, extent 4.202,15.2 4.798,15.8
3D body: height 0.55, standoff -0.05, extent 3.202,15.2 3.798,15.8
3D body: height 0.55, standoff -0.05, extent 2.202,15.2 2.798,15.8
3D body: height 0.55, standoff -0.05, extent 1.202,15.2 1.798,15.8
3D body: height 0.55, standoff -0.05, extent -8.798,16.2 -8.202,16.8
3D body: height 0.55, standoff -0.05, extent -9.798,16.2 -9.202,16.8
3D body: height 0.55, standoff -0.05, extent -10.798,16.2 -10.202,16.8
3D body: height 0.55, standoff -0.05, extent -11.798,16.2 -11.202,16.8
3D body: height 0.55, standoff -0.05, extent -12.798,16.2 -12.202,16.8
3D body: height 0.55, standoff -0.05, extent -13.798,16.2 -13.202,16.8
3D body: height 0.55, standoff -0.05, extent -14.798,16.2 -14.202,16.8
3D body: height 0.55, standoff -0.05, extent -15.798,16.2 -15.202,16.8
3D body: height 0.55, standoff -0.05, extent -16.798,16.2 -16.202,16.8
3D body: height 0.55, standoff -0.05, extent 0.202,16.2 0.798,16.8
3D body: height 0.55, standoff -0.05, extent -0.798,16.2 -0.202,16.8
3D body: height 0.55, standoff -0.05, extent -1.798,16.2 -1.202,16.8
3D body: height 0.55, standoff -0.05, extent -2.798,16.2 -2.202,16.8
3D body: height 0.55, standoff -0.05, extent -3.798,16.2 -3.202,16.8
3D body: height 0.55, standoff -0.05, extent -4.798,16.2 -4.202,16.8
3D body: height 0.55, standoff -0.05, extent -5.798,16.2 -5.202,16.8
3D body: height 0.55, standoff -0.05, extent -6.798,16.2 -6.202,16.8
3D body: height 0.55, standoff -0.05, extent -7.798,16.2 -7.202,16.8
3D body: height 0.55, standoff -0.05, extent 8.202,16.2 8.798,16.8
3D body: height 0.55, standoff -0.05, extent 7.202,16.2 7.798,16.8
3D body: height 0.55, standoff -0.05, extent 6.202,16.2 6.798,16.8
3D body: height 0.55, standoff -0.05, extent 5.202,16.2 5.798,16.8
3D body: height 0.55, standoff -0.05, extent 4.202,16.2 4.798,16.8
3D body: height 0.55, standoff -0.05, extent 3.202,16.2 3.798,16.8
3D body: height 0.55, standoff -0.05, extent 2.202,16.2 2.798,16.8
3D body: height 0.55, standoff -0.05, extent 1.202,16.2 1.798,16.8
3D body: height 0.55, standoff -0.05, extent 10.202,16.2 10.798,16.8
3D body: height 0.55, standoff -0.05, extent 11.202,16.2 11.798,16.8
3D body: height 0.55, standoff -0.05, extent 12.202,16.2 12.798,16.8
3D body: height 0.55, standoff -0.05, extent 13.202,16.2 13.798,16.8
3D body: height 0.55, standoff -0.05, extent 14.202,16.2 14.798,16.8
3D body: height 0.55, standoff -0.05, extent 15.202,16.2 15.798,16.8
3D body: height 0.55, standoff -0.05, extent 16.202,16.2 16.798,16.8
3D body: height 0.55, standoff -0.05, extent 9.202,16.2 9.798,16.8
3D body: height 0.55, standoff -0.05, extent 10.202,15.2 10.798,15.8
3D body: height 0.55, standoff -0.05, extent 11.202,15.2 11.798,15.8
3D body: height 0.55, standoff -0.05, extent 12.202,15.2 12.798,15.8
3D body: height 0.55, standoff -0.05, extent 13.202,15.2 13.798,15.8
3D body: height 0.55, standoff -0.05, extent 14.202,15.2 14.798,15.8
3D body: height 0.55, standoff -0.05, extent 15.202,15.2 15.798,15.8
3D body: height 0.55, standoff -0.05, extent 16.202,15.2 16.798,15.8
3D body: height 0.55, standoff -0.05, extent 9.202,15.2 9.798,15.8
3D body: height 0.55, standoff -0.05, extent 10.202,14.2 10.798,14.8
3D body: height 0.55, standoff -0.05, extent 11.202,14.2 11.798,14.8
3D body: height 0.55, standoff -0.05, extent 12.202,14.2 12.798,14.8
3D body: height 0.55, standoff -0.05, extent 13.202,14.2 13.798,14.8
3D body: height 0.55, standoff -0.05, extent 14.202,14.2 14.798,14.8
3D body: height 0.55, standoff -0.05, extent 15.202,14.2 15.798,14.8
3D body: height 0.55, standoff -0.05, extent 16.202,14.2 16.798,14.8
3D body: height 0.55, standoff -0.05, extent 9.202,14.2 9.798,14.8
3D body: height 0.55, standoff -0.05, extent 10.202,13.2 10.798,13.8
3D body: height 0.55, standoff -0.05, extent 11.202,13.2 11.798,13.8
3D body: height 0.55, standoff -0.05, extent 12.202,13.2 12.798,13.8
3D body: height 0.55, standoff -0.05, extent 13.202,13.2 13.798,13.8
3D body: height 0.55, standoff -0.05, extent 14.202,13.2 14.798,13.8
3D body: height 0.55, standoff -0.05, extent 15.202,13.2 15.798,13.8
3D body: height 0.55, standoff -0.05, extent 16.202,13.2 16.798,13.8
3D body: height 0.55, standoff -0.05, extent 9.202,13.2 9.798,13.8
3D body: height 0.55, standoff -0.05, extent 10.202,12.2 10.798,12.8
3D body: height 0.55, standoff -0.05, extent 11.202,12.2 11.798,12.8
3D body: height 0.55, standoff -0.05, extent 12.202,12.2 12.798,12.8
3D body: height 0.55, standoff -0.05, extent 13.202,12.2 13.798,12.8
3D body: height 0.55, standoff -0.05, extent 14.202,12.2 14.798,12.8
3D body: height 0.55, standoff -0.05, extent 15.202,12.2 15.798,12.8
3D body: height 0.55, standoff -0.05, extent 16.202,12.2 16.798,12.8
3D body: height 0.55, standoff -0.05, extent 9.202,12.2 9.798,12.8
3D body: height 0.55, standoff -0.05, extent 10.202,11.2 10.798,11.8
3D body: height 0.55, standoff -0.05, extent 11.202,11.2 11.798,11.8
3D body: height 0.55, standoff -0.05, extent 12.202,11.2 12.798,11.8
3D body: height 0.55, standoff -0.05, extent 13.202,11.2 13.798,11.8
3D body: height 0.55, standoff -0.05, extent 14.202,11.2 14.798,11.8
3D body: height 0.55, standoff -0.05, extent 15.202,11.2 15.798,11.8
3D body: height 0.55, standoff -0.05, extent 16.202,11.2 16.798,11.8
3D body: height 0.55, standoff -0.05, extent 9.202,11.2 9.798,11.8
3D body: height 0.55, standoff -0.05, extent 10.202,10.2 10.798,10.8
3D body: height 0.55, standoff -0.05, extent 11.202,10.2 11.798,10.8
3D body: height 0.55, standoff -0.05, extent 12.202,10.2 12.798,10.8
3D body: height 0.55, standoff -0.05, extent 13.202,10.2 13.798,10.8
3D body: height 0.55, standoff -0.05, extent 14.202,10.2 14.798,10.8
3D body: height 0.55, standoff -0.05, extent 15.202,10.2 15.798,10.8
3D body: height 0.55, standoff -0.05, extent 16.202,10.2 16.798,10.8
3D body: height 0.55, standoff -0.05, extent 9.202,10.2 9.798,10.8
3D body: height 0.55, standoff -0.05, extent 10.202,9.2 10.798,9.8
3D body: height 0.55, standoff -0.05, extent 11.202,9.2 11.798,9.8
3D body: height 0.55, standoff -0.05, extent 12.202,9.2 12.798,9.8
3D body: height 0.55, standoff -0.05, extent 13.202,9.2 13.798,9.8
3D body: height 0.55, standoff -0.05, extent 14.202,9.2 14.798,9.8
3D body: height 0.55, standoff -0.05, extent 15.202,9.2 15.798,9.8
3D body: height 0.55, standoff -0.05, extent 16.202,9.2 16.798,9.8
3D body: height 0.55, standoff -0.05, extent 9.202,9.2 9.798,9.8
3D body: height 0.55, standoff -0.05, extent 10.202,8.2 10.798,8.8
3D body: height 0.55, standoff -0.05, extent 11.202,8.2 11.798,8.8
3D body: height 0.55, standoff -0.05, extent 12.202,8.2 12.798,8.8
3D body: height 0.55, standoff -0.05, extent 13.202,8.2 13.798,8.8
3D body: height 0.55, standoff -0.05, extent 14.202,8.2 14.798,8.8
3D body: height 0.55, standoff -0.05, extent 15.202,8.2 15.798,8.8
3D body: height 0.55, standoff -0.05, extent 16.202,8.2 16.798,8.8
3D body: height 0.55, standoff -0.05, extent 9.202,8.2 9.798,8.8
3D body: height 0.55, standoff -0.05, extent 10.202,7.2 10.798,7.8
3D body: height 0.55, standoff -0.05, extent 11.202,7.2 11.798,7.8
3D body: height 0.55, standoff -0.05, extent 12.202,7.2 12.798,7.8
3D body: height 0.55, standoff -0.05, extent 13.202,7.2 13.798,7.8
3D body: height 0.55, standoff -0.05, extent 14.202,7.2 14.798,7.8
3D body: height 0.55, standoff -0.05, extent 15.202,7.2 15.798,7.8
3D body: height 0.55, standoff -0.05, extent 16.202,7.2 16.798,7.8
3D body: height 0.55, standoff -0.05, extent 9.202,7.2 9.798,7.8
3D body: height 0.55, standoff -0.05, extent 9.202,-16.8 9.798,-16.2
3D body: height 0.55, standoff -0.05, extent 16.202,-16.8 16.798,-16.2
3D body: height 0.55, standoff -0.05, extent 15.202,-16.8 15.798,-16.2
3D body: height 0.55, standoff -0.05, extent 14.202,-16.8 14.798,-16.2
3D body: height 0.55, standoff -0.05, extent 13.202,-16.8 13.798,-16.2
3D body: height 0.55, standoff -0.05, extent 12.202,-16.8 12.798,-16.2
3D body: height 0.55, standoff -0.05, extent 11.202,-16.8 11.798,-16.2
3D body: height 0.55, standoff -0.05, extent 10.202,-16.8 10.798,-16.2
3D body: height 0.55, standoff -0.05, extent 9.202,-15.8 9.798,-15.2
3D body: height 0.55, standoff -0.05, extent 16.202,-15.8 16.798,-15.2
3D body: height 0.55, standoff -0.05, extent 15.202,-15.8 15.798,-15.2
3D body: height 0.55, standoff -0.05, extent 14.202,-15.8 14.798,-15.2
3D body: height 0.55, standoff -0.05, extent 13.202,-15.8 13.798,-15.2
3D body: height 0.55, standoff -0.05, extent 12.202,-15.8 12.798,-15.2
3D body: height 0.55, standoff -0.05, extent 11.202,-15.8 11.798,-15.2
3D body: height 0.55, standoff -0.05, extent 10.202,-15.8 10.798,-15.2
3D body: height 0.55, standoff -0.05, extent 9.202,-14.8 9.798,-14.2
3D body: height 0.55, standoff -0.05, extent 16.202,-14.8 16.798,-14.2
3D body: height 0.55, standoff -0.05, extent 15.202,-14.8 15.798,-14.2
3D body: height 0.55, standoff -0.05, extent 14.202,-14.8 14.798,-14.2
3D body: height 0.55, standoff -0.05, extent 13.202,-14.8 13.798,-14.2
3D body: height 0.55, standoff -0.05, extent 12.202,-14.8 12.798,-14.2
3D body: height 0.55, standoff -0.05, extent 11.202,-14.8 11.798,-14.2
3D body: height 0.55, standoff -0.05, extent 10.202,-14.8 10.798,-14.2
3D body: height 0.55, standoff -0.05, extent 9.202,-13.8 9.798,-13.2
3D body: height 0.55, standoff -0.05, extent 16.202,-13.8 16.798,-13.2
3D body: height 0.55, standoff -0.05, extent 15.202,-13.8 15.798,-13.2
3D body: height 0.55, standoff -0.05, extent 14.202,-13.8 14.798,-13.2
3D body: height 0.55, standoff -0.05, extent 13.202,-13.8 13.798,-13.2
3D body: height 0.55, standoff -0.05, extent 12.202,-13.8 12.798,-13.2
3D body: height 0.55, standoff -0.05, extent 11.202,-13.8 11.798,-13.2
3D body: height 0.55, standoff -0.05, extent 10.202,-13.8 10.798,-13.2
3D body: height 0.55, standoff -0.05, extent 9.202,-12.8 9.798,-12.2
3D body: height 0.55, standoff -0.05, extent 16.202,-12.8 16.798,-12.2
3D body: height 0.55, standoff -0.05, extent 15.202,-12.8 15.798,-12.2
3D body: height 0.55, standoff -0.05, extent 14.202,-12.8 14.798,-12.2
3D body: height 0.55, standoff -0.05, extent 13.202,-12.8 13.798,-12.2
3D body: height 0.55, standoff -0.05, extent 12.202,-12.8 12.798,-12.2
3D body: height 0.55, standoff -0.05, extent 11.202,-12.8 11.798,-12.2
3D body: height 0.55, standoff -0.05, extent 10.202,-12.8 10.798,-12.2
3D body: height 0.55, standoff -0.05, extent 9.202,-11.8 9.798,-11.2
3D body: height 0.55, standoff -0.05, extent 16.202,-11.8 16.798,-11.2
3D body: height 0.55, standoff -0.05, extent 15.202,-11.8 15.798,-11.2
3D body: height 0.55, standoff -0.05, extent 14.202,-11.8 14.798,-11.2
3D body: height 0.55, standoff -0.05, extent 13.202,-11.8 13.798,-11.2
3D body: height 0.55, standoff -0.05, extent 12.202,-11.8 12.798,-11.2
3D body: height 0.55, standoff -0.05, extent 11.202,-11.8 11.798,-11.2
3D body: height 0.55, standoff -0.05, extent 10.202,-11.8 10.798,-11.2
3D body: height 0.55, standoff -0.05, extent 9.202,-10.8 9.798,-10.2
3D body: height 0.55, standoff -0.05, extent 16.202,-10.8 16.798,-10.2
3D body: height 0.55, standoff -0.05, extent 15.202,-10.8 15.798,-10.2
3D body: height 0.55, standoff -0.05, extent 14.202,-10.8 14.798,-10.2
3D body: height 0.55, standoff -0.05, extent 13.202,-10.8 13.798,-10.2
3D body: height 0.55, standoff -0.05, extent 12.202,-10.8 12.798,-10.2
3D body: height 0.55, standoff -0.05, extent 11.202,-10.8 11.798,-10.2
3D body: height 0.55, standoff -0.05, extent 10.202,-10.8 10.798,-10.2
3D body: height 0.55, standoff -0.05, extent 9.202,-9.8 9.798,-9.2
3D body: height 0.55, standoff -0.05, extent 16.202,-9.8 16.798,-9.2
3D body: height 0.55, standoff -0.05, extent 15.202,-9.8 15.798,-9.2
3D body: height 0.55, standoff -0.05, extent 14.202,-9.8 14.798,-9.2
3D body: height 0.55, standoff -0.05, extent 13.202,-9.8 13.798,-9.2
3D body: height 0.55, standoff -0.05, extent 12.202,-9.8 12.798,-9.2
3D body: height 0.55, standoff -0.05, extent 11.202,-9.8 11.798,-9.2
3D body: height 0.55, standoff -0.05, extent 10.202,-9.8 10.798,-9.2
3D body: height 0.55, standoff -0.05, extent 9.202,-8.8 9.798,-8.2
3D body: height 0.55, standoff -0.05, extent 16.202,-8.8 16.798,-8.2
3D body: height 0.55, standoff -0.05, extent 15.202,-8.8 15.798,-8.2
3D body: height 0.55, standoff -0.05, extent 14.202,-8.8 14.798,-8.2
3D body: height 0.55, standoff -0.05, extent 13.202,-8.8 13.798,-8.2
3D body: height 0.55, standoff -0.05, extent 12.202,-8.8 12.798,-8.2
3D body: height 0.55, standoff -0.05, extent 11.202,-8.8 11.798,-8.2
3D body: height 0.55, standoff -0.05, extent 10.202,-8.8 10.798,-8.2
3D body: height 0.55, standoff -0.05, extent 9.202,-7.8 9.798,-7.2
3D body: height 0.55, standoff -0.05, extent 16.202,-7.8 16.798,-7.2
3D body: height 0.55, standoff -0.05, extent 15.202,-7.8 15.798,-7.2
3D body: height 0.55, standoff -0.05, extent 14.202,-7.8 14.798,-7.2
3D body: height 0.55, standoff -0.05, extent 13.202,-7.8 13.798,-7.2
3D body: height 0.55, standoff -0.05, extent 12.202,-7.8 12.798,-7.2
3D body: height 0.55, standoff -0.05, extent 11.202,-7.8 11.798,-7.2
3D body: height 0.55, standoff -0.05, extent 10.202,-7.8 10.798,-7.2
3D body: height 0.55, standoff -0.05, extent 9.202,-6.8 9.798,-6.2
3D body: height 0.55, standoff -0.05, extent 16.202,-6.8 16.798,-6.2
3D body: height 0.55, standoff -0.05, extent 15.202,-6.8 15.798,-6.2
3D body: height 0.55, standoff -0.05, extent 14.202,-6.8 14.798,-6.2
3D body: height 0.55, standoff -0.05, extent 13.202,-6.8 13.798,-6.2
3D body: height 0.55, standoff -0.05, extent 12.202,-6.8 12.798,-6.2
3D body: height 0.55, standoff -0.05, extent 11.202,-6.8 11.798,-6.2
3D body: height 0.55, standoff -0.05, extent 10.202,-6.8 10.798,-6.2
3D body: height 0.55, standoff -0.05, extent 9.202,-5.8 9.798,-5.2
3D body: height 0.55, standoff -0.05, extent 16.202,-5.8 16.798,-5.2
3D body: height 0.55, standoff -0.05, extent 15.202,-5.8 15.798,-5.2
3D body: height 0.55, standoff -0.05, extent 14.202,-5.8 14.798,-5.2
3D body: height 0.55, standoff -0.05, extent 13.202,-5.8 13.798,-5.2
3D body: height 0.55, standoff -0.05, extent 12.202,-5.8 12.798,-5.2
3D body: height 0.55, standoff -0.05, extent 11.202,-5.8 11.798,-5.2
3D body: height 0.55, standoff -0.05, extent 10.202,-5.8 10.798,-5.2
3D body: height 0.55, standoff -0.05, extent 9.202,-4.8 9.798,-4.2
3D body: height 0.55, standoff -0.05, extent 16.202,-4.8 16.798,-4.2
3D body: height 0.55, standoff -0.05, extent 15.202,-4.8 15.798,-4.2
3D body: height 0.55, standoff -0.05, extent 14.202,-4.8 14.798,-4.2
3D body: height 0.55, standoff -0.05, extent 13.202,-4.8 13.798,-4.2
3D body: height 0.55, standoff -0.05, extent 12.202,-4.8 12.798,-4.2
3D body: height 0.55, standoff -0.05, extent 11.202,-4.8 11.798,-4.2
3D body: height 0.55, standoff -0.05, extent 10.202,-4.8 10.798,-4.2
3D body: height 0.55, standoff -0.05, extent 9.202,-3.8 9.798,-3.2
3D body: height 0.55, standoff -0.05, extent 16.202,-3.8 16.798,-3.2
3D body: height 0.55, standoff -0.05, extent 15.202,-3.8 15.798,-3.2
3D body: height 0.55, standoff -0.05, extent 14.202,-3.8 14.798,-3.2
3D body: height 0.55, standoff -0.05, extent 13.202,-3.8 13.798,-3.2
3D body: height 0.55, standoff -0.05, extent 12.202,-3.8 12.798,-3.2
3D body: height 0.55, standoff -0.05, extent 11.202,-3.8 11.798,-3.2
3D body: height 0.55, standoff -0.05, extent 10.202,-3.8 10.798,-3.2
3D body: height 0.55, standoff -0.05, extent 9.202,-2.8 9.798,-2.2
3D body: height 0.55, standoff -0.05, extent 16.202,-2.8 16.798,-2.2
3D body: height 0.55, standoff -0.05, extent 15.202,-2.8 15.798,-2.2
3D body: height 0.55, standoff -0.05, extent 14.202,-2.8 14.798,-2.2
3D body: height 0.55, standoff -0.05, extent 13.202,-2.8 13.798,-2.2
3D body: height 0.55, standoff -0.05, extent 12.202,-2.8 12.798,-2.2
3D body: height 0.55, standoff -0.05, extent 11.202,-2.8 11.798,-2.2
3D body: height 0.55, standoff -0.05, extent 10.202,-2.8 10.798,-2.2
3D body: height 0.55, standoff -0.05, extent 9.202,-1.8 9.798,-1.2
3D body: height 0.55, standoff -0.05, extent 16.202,-1.8 16.798,-1.2
3D body: height 0.55, standoff -0.05, extent 15.202,-1.8 15.798,-1.2
3D body: height 0.55, standoff -0.05, extent 14.202,-1.8 14.798,-1.2
3D body: height 0.55, standoff -0.05, extent 13.202,-1.8 13.798,-1.2
3D body: height 0.55, standoff -0.05, extent 12.202,-1.8 12.798,-1.2
3D body: height 0.55, standoff -0.05, extent 11.202,-1.8 11.798,-1.2
3D body: height 0.55, standoff -0.05, extent 10.202,-1.8 10.798,-1.2
3D body: height 0.55, standoff -0.05, extent 9.202,-0.8 9.798,-0.2
3D body: height 0.55, standoff -0.05, extent 16.202,-0.8 16.798,-0.2
3D body: height 0.55, standoff -0.05, extent 15.202,-0.8 15.798,-0.2
3D body: height 0.55, standoff -0.05, extent 14.202,-0.8 14.798,-0.2
3D body: height 0.55, standoff -0.05, extent 13.202,-0.8 13.798,-0.2
3D body: height 0.55, standoff -0.05, extent 12.202,-0.8 12.798,-0.2
3D body: height 0.55, standoff -0.05, extent 11.202,-0.8 11.798,-0.2
3D body: height 0.55, standoff -0.05, extent 10.202,-0.8 10.798,-0.2
3D body: height 0.55, standoff -0.05, extent 9.202,0.2 9.798,0.8
3D body: height 0.55, standoff -0.05, extent 16.202,0.2 16.798,0.8
3D body: height 0.55, standoff -0.05, extent 15.202,0.2 15.798,0.8
3D body: height 0.55, standoff -0.05, extent 14.202,0.2 14.798,0.8
3D body: height 0.55, standoff -0.05, extent 13.202,0.2 13.798,0.8
3D body: height 0.55, standoff -0.05, extent 12.202,0.2 12.798,0.8
3D body: height 0.55, standoff -0.05, extent 11.202,0.2 11.798,0.8
3D body: height 0.55, standoff -0.05, extent 10.202,0.2 10.798,0.8
3D body: height 0.55, standoff -0.05, extent 9.202,1.2 9.798,1.8
3D body: height 0.55, standoff -0.05, extent 16.202,1.2 16.798,1.8
3D body: height 0.55, standoff -0.05, extent 15.202,1.2 15.798,1.8
3D body: height 0.55, standoff -0.05, extent 14.202,1.2 14.798,1.8
3D body: height 0.55, standoff -0.05, extent 13.202,1.2 13.798,1.8
3D body: height 0.55, standoff -0.05, extent 12.202,1.2 12.798,1.8
3D body: height 0.55, standoff -0.05, extent 11.202,1.2 11.798,1.8
3D body: height 0.55, standoff -0.05, extent 10.202,1.2 10.798,1.8
3D body: height 0.55, standoff -0.05, extent 9.202,2.2 9.798,2.8
3D body: height 0.55, standoff -0.05, extent 16.202,2.2 16.798,2.8
3D body: height 0.55, standoff -0.05, extent 15.202,2.2 15.798,2.8
3D body: height 0.55, standoff -0.05, extent 14.202,2.2 14.798,2.8
3D body: height 0.55, standoff -0.05, extent 13.202,2.2 13.798,2.8
3D body: height 0.55, standoff -0.05, extent 12.202,2.2 12.798,2.8
3D body: height 0.55, standoff -0.05, extent 11.202,2.2 11.798,2.8
3D body: height 0.55, standoff -0.05, extent 10.202,2.2 10.798,2.8
3D body: height 0.55, standoff -0.05, extent 9.202,3.2 9.798,3.8
3D body: height 0.55, standoff -0.05, extent 16.202,3.2 16.798,3.8
3D body: height 0.55, standoff -0.05, extent 15.202,3.2 15.798,3.8
3D body: height 0.55, standoff -0.05, extent 14.202,3.2 14.798,3.8
3D body: height 0.55, standoff -0.05, extent 13.202,3.2 13.798,3.8
3D body: height 0.55, standoff -0.05, extent 12.202,3.2 12.798,3.8
3D body: height 0.55, standoff -0.05, extent 11.202,3.2 11.798,3.8
3D body: height 0.55, standoff -0.05, extent 10.202,3.2 10.798,3.8
3D body: height 0.55, standoff -0.05, extent 9.202,4.2 9.798,4.8
3D body: height 0.55, standoff -0.05, extent 16.202,4.2 16.798,4.8
3D body: height 0.55, standoff -0.05, extent 15.202,4.2 15.798,4.8
3D body: height 0.55, standoff -0.05, extent 14.202,4.2 14.798,4.8
3D body: height 0.55, standoff -0.05, extent 13.202,4.2 13.798,4.8
3D body: height 0.55, standoff -0.05, extent 12.202,4.2 12.798,4.8
3D body: height 0.55, standoff -0.05, extent 11.202,4.2 11.798,4.8
3D body: height 0.55, standoff -0.05, extent 10.202,4.2 10.798,4.8
3D body: height 0.55, standoff -0.05, extent 9.202,5.2 9.798,5.8
3D body: height 0.55, standoff -0.05, extent 16.202,5.2 16.798,5.8
3D body: height 0.55, standoff -0.05, extent 15.202,5.2 15.798,5.8
3D body: height 0.55, standoff -0.05, extent 14.202,5.2 14.798,5.8
3D body: height 0.55, standoff -0.05, extent 13.202,5.2 13.798,5.8
3D body: height 0.55, standoff -0.05, extent 12.202,5.2 12.798,5.8
3D body: height 0.55, standoff -0.05, extent 11.202,5.2 11.798,5.8
3D body: height 0.55, standoff -0.05, extent 10.202,5.2 10.798,5.8
3D body: height 0.55, standoff -0.05, extent 10.202,6.2 10.798,6.8
3D body: height 0.55, standoff -0.05, extent 11.202,6.2 11.798,6.8
3D body: height 0.55, standoff -0.05, extent 12.202,6.2 12.798,6.8
3D body: height 0.55, standoff -0.05, extent 13.202,6.2 13.798,6.8
3D body: height 0.55, standoff -0.05, extent 14.202,6.2 14.798,6.8
3D body: height 0.55, standoff -0.05, extent 15.202,6.2 15.798,6.8
3D body: height 0.55, standoff -0.05, extent 16.202,6.2 16.798,6.8
3D body: height 0.55, standoff -0.05, extent 9.202,6.2 9.798,6.8
3D body: height 0.55, standoff -0.05, extent -8.798,6.2 -8.202,6.8
3D body: height 0.55, standoff -0.05, extent -9.798,6.2 -9.202,6.8
3D body: height 0.55, standoff -0.05, extent -10.798,6.2 -10.202,6.8
3D body: height 0.55, standoff -0.05, extent -11.798,6.2 -11.202,6.8
3D body: height 0.55, standoff -0.05, extent -12.798,6.2 -12.202,6.8
3D body: height 0.55, standoff -0.05, extent -13.798,6.2 -13.202,6.8
3D body: height 0.55, standoff -0.05, extent -14.798,6.2 -14.202,6.8
3D body: height 0.55, standoff -0.05, extent -15.798,6.2 -15.202,6.8
3D body: height 0.55, standoff -0.05, extent -16.798,6.2 -16.202,6.8
3D body: height 0.55, standoff -0.05, extent 0.202,6.2 0.798,6.8
3D body: height 0.55, standoff -0.05, extent -0.798,6.2 -0.202,6.8
3D body: height 0.55, standoff -0.05, extent -1.798,6.2 -1.202,6.8
3D body: height 0.55, standoff -0.05, extent -2.798,6.2 -2.202,6.8
3D body: height 0.55, standoff -0.05, extent -3.798,6.2 -3.202,6.8
3D body: height 0.55, standoff -0.05, extent -4.798,6.2 -4.202,6.8
3D body: height 0.55, standoff -0.05, extent -5.798,6.2 -5.202,6.8
3D body: height 0.55, standoff -0.05, extent -6.798,6.2 -6.202,6.8
3D body: height 0.55, standoff -0.05, extent -7.798,6.2 -7.202,6.8
3D body: height 0.55, standoff -0.05, extent 8.202,6.2 8.798,6.8
3D body: height 0.55, standoff -0.05, extent 7.202,6.2 7.798,6.8
3D body: height 0.55, standoff -0.05, extent 6.202,6.2 6.798,6.8
3D body: height 0.55, standoff -0.05, extent 5.202,6.2 5.798,6.8
3D body: height 0.55, standoff -0.05, extent 4.202,6.2 4.798,6.8
3D body: height 0.55, standoff -0.05, extent 3.202,6.2 3.798,6.8
3D body: height 0.55, standoff -0.05, extent 2.202,6.2 2.798,6.8
3D body: height 0.55, standoff -0.05, extent 1.202,6.2 1.798,6.8
3D body: height 0.55, standoff -0.05, extent 1.202,5.2 1.798,5.8
3D body: height 0.55, standoff -0.05, extent 2.202,5.2 2.798,5.8
3D body: height 0.55, standoff -0.05, extent 3.202,5.2 3.798,5.8
3D body: height 0.55, standoff -0.05, extent 4.202,5.2 4.798,5.8
3D body: height 0.55, standoff -0.05, extent 5.202,5.2 5.798,5.8
3D body: height 0.55, standoff -0.05, extent 6.202,5.2 6.798,5.8
3D body: height 0.55, standoff -0.05, extent 7.202,5.2 7.798,5.8
3D body: height 0.55, standoff -0.05, extent 8.202,5.2 8.798,5.8
3D body: height 0.55, standoff -0.05, extent -7.798,5.2 -7.202,5.8
3D body: height 0.55, standoff -0.05, extent -6.798,5.2 -6.202,5.8
3D body: height 0.55, standoff -0.05, extent -5.798,5.2 -5.202,5.8
3D body: height 0.55, standoff -0.05, extent -4.798,5.2 -4.202,5.8
3D body: height 0.55, standoff -0.05, extent -3.798,5.2 -3.202,5.8
3D body: height 0.55, standoff -0.05, extent -2.798,5.2 -2.202,5.8
3D body: height 0.55, standoff -0.05, extent -1.798,5.2 -1.202,5.8
3D body: height 0.55, standoff -0.05, extent -0.798,5.2 -0.202,5.8
3D body: height 0.55, standoff -0.05, extent 0.202,5.2 0.798,5.8
3D body: height 0.55, standoff -0.05, extent -16.798,5.2 -16.202,5.8
3D body: height 0.55, standoff -0.05, extent -15.798,5.2 -15.202,5.8
3D body: height 0.55, standoff -0.05, extent -14.798,5.2 -14.202,5.8
3D body: height 0.55, standoff -0.05, extent -13.798,5.2 -13.202,5.8
3D body: height 0.55, standoff -0.05, extent -12.798,5.2 -12.202,5.8
3D body: height 0.55, standoff -0.05, extent -11.798,5.2 -11.202,5.8
3D body: height 0.55, standoff -0.05, extent -10.798,5.2 -10.202,5.8
3D body: height 0.55, standoff -0.05, extent -9.798,5.2 -9.202,5.8
3D body: height 0.55, standoff -0.05, extent -8.798,5.2 -8.202,5.8
3D body: height 0.55, standoff -0.05, extent 1.202,4.2 1.798,4.8
3D body: height 0.55, standoff -0.05, extent 2.202,4.2 2.798,4.8
3D body: height 0.55, standoff -0.05, extent 3.202,4.2 3.798,4.8
3D body: height 0.55, standoff -0.05, extent 4.202,4.2 4.798,4.8
3D body: height 0.55, standoff -0.05, extent 5.202,4.2 5.798,4.8
3D body: height 0.55, standoff -0.05, extent 6.202,4.2 6.798,4.8
3D body: height 0.55, standoff -0.05, extent 7.202,4.2 7.798,4.8
3D body: height 0.55, standoff -0.05, extent 8.202,4.2 8.798,4.8
3D body: height 0.55, standoff -0.05, extent -7.798,4.2 -7.202,4.8
3D body: height 0.55, standoff -0.05, extent -6.798,4.2 -6.202,4.8
3D body: height 0.55, standoff -0.05, extent -5.798,4.2 -5.202,4.8
3D body: height 0.55, standoff -0.05, extent -4.798,4.2 -4.202,4.8
3D body: height 0.55, standoff -0.05, extent -3.798,4.2 -3.202,4.8
3D body: height 0.55, standoff -0.05, extent -2.798,4.2 -2.202,4.8
3D body: height 0.55, standoff -0.05, extent -1.798,4.2 -1.202,4.8
3D body: height 0.55, standoff -0.05, extent -0.798,4.2 -0.202,4.8
3D body: height 0.55, standoff -0.05, extent 0.202,4.2 0.798,4.8
3D body: height 0.55, standoff -0.05, extent -16.798,4.2 -16.202,4.8
3D body: height 0.55, standoff -0.05, extent -15.798,4.2 -15.202,4.8
3D body: height 0.55, standoff -0.05, extent -14.798,4.2 -14.202,4.8
3D body: height 0.55, standoff -0.05, extent -13.798,4.2 -13.202,4.8
3D body: height 0.55, standoff -0.05, extent -12.798,4.2 -12.202,4.8
3D body: height 0.55, standoff -0.05, extent -11.798,4.2 -11.202,4.8
3D body: height 0.55, standoff -0.05, extent -10.798,4.2 -10.202,4.8
3D body: height 0.55, standoff -0.05, extent -9.798,4.2 -9.202,4.8
3D body: height 0.55, standoff -0.05, extent -8.798,4.2 -8.202,4.8
3D body: height 0.55, standoff -0.05, extent 1.202,3.2 1.798,3.8
3D body: height 0.55, standoff -0.05, extent 2.202,3.2 2.798,3.8
3D body: height 0.55, standoff -0.05, extent 3.202,3.2 3.798,3.8
3D body: height 0.55, standoff -0.05, extent 4.202,3.2 4.798,3.8
3D body: height 0.55, standoff -0.05, extent 5.202,3.2 5.798,3.8
3D body: height 0.55, standoff -0.05, extent 6.202,3.2 6.798,3.8
3D body: height 0.55, standoff -0.05, extent 7.202,3.2 7.798,3.8
3D body: height 0.55, standoff -0.05, extent 8.202,3.2 8.798,3.8
3D body: height 0.55, standoff -0.05, extent -7.798,3.2 -7.202,3.8
3D body: height 0.55, standoff -0.05, extent -6.798,3.2 -6.202,3.8
3D body: height 0.55, standoff -0.05, extent -5.798,3.2 -5.202,3.8
3D body: height 0.55, standoff -0.05, extent -4.798,3.2 -4.202,3.8
3D body: height 0.55, standoff -0.05, extent -3.798,3.2 -3.202,3.8
3D body: height 0.55, standoff -0.05, extent -2.798,3.2 -2.202,3.8
3D body: height 0.55, standoff -0.05, extent -1.798,3.2 -1.202,3.8
3D body: height 0.55, standoff -0.05, extent -0.798,3.2 -0.202,3.8
3D body: height 0.55, standoff -0.05, extent 0.202,3.2 0.798,3.8
3D body: height 0.55, standoff -0.05, extent -16.798,3.2 -16.202,3.8
3D body: height 0.55, standoff -0.05, extent -15.798,3.2 -15.202,3.8
3D body: height 0.55, standoff -0.05, extent -14.798,3.2 -14.202,3.8
3D body: height 0.55, standoff -0.05, extent -13.798,3.2 -13.202,3.8
3D body: height 0.55, standoff -0.05, extent -12.798,3.2 -12.202,3.8
3D body: height 0.55, standoff -0.05, extent -11.798,3.2 -11.202,3.8
3D body: height 0.55, standoff -0.05, extent -10.798,3.2 -10.202,3.8
3D body: height 0.55, standoff -0.05, extent -9.798,3.2 -9.202,3.8
3D body: height 0.55, standoff -0.05, extent -8.798,3.2 -8.202,3.8
3D body: height 0.55, standoff -0.05, extent 1.202,2.2 1.798,2.8
3D body: height 0.55, standoff -0.05, extent 2.202,2.2 2.798,2.8
3D body: height 0.55, standoff -0.05, extent 3.202,2.2 3.798,2.8
3D body: height 0.55, standoff -0.05, extent 4.202,2.2 4.798,2.8
3D body: height 0.55, standoff -0.05, extent 5.202,2.2 5.798,2.8
3D body: height 0.55, standoff -0.05, extent 6.202,2.2 6.798,2.8
3D body: height 0.55, standoff -0.05, extent 7.202,2.2 7.798,2.8
3D body: height 0.55, standoff -0.05, extent 8.202,2.2 8.798,2.8
3D body: height 0.55, standoff -0.05, extent -7.798,2.2 -7.202,2.8
3D body: height 0.55, standoff -0.05, extent -6.798,2.2 -6.202,2.8
3D body: height 0.55, standoff -0.05, extent -5.798,2.2 -5.202,2.8
3D body: height 0.55, standoff -0.05, extent -4.798,2.2 -4.202,2.8
3D body: height 0.55, standoff -0.05, extent -3.798,2.2 -3.202,2.8
3D body: height 0.55, standoff -0.05, extent -2.798,2.2 -2.202,2.8
3D body: height 0.55, standoff -0.05, extent -1.798,2.2 -1.202,2.8
3D body: height 0.55, standoff -0.05, extent -0.798,2.2 -0.202,2.8
3D body: height 0.55, standoff -0.05, extent 0.202,2.2 0.798,2.8
3D body: height 0.55, standoff -0.05, extent -16.798,2.2 -16.202,2.8
3D body: height 0.55, standoff -0.05, extent -15.798,2.2 -15.202,2.8
3D body: height 0.55, standoff -0.05, extent -14.798,2.2 -14.202,2.8
3D body: height 0.55, standoff -0.05, extent -13.798,2.2 -13.202,2.8
3D body: height 0.55, standoff -0.05, extent -12.798,2.2 -12.202,2.8
3D body: height 0.55, standoff -0.05, extent -11.798,2.2 -11.202,2.8
3D body: height 0.55, standoff -0.05, extent -10.798,2.2 -10.202,2.8
3D body: height 0.55, standoff -0.05, extent -9.798,2.2 -9.202,2.8
3D body: height 0.55, standoff -0.05, extent -8.798,2.2 -8.202,2.8
3D body: height 0.55, standoff -0.05, extent 1.202,1.2 1.798,1.8
3D body: height 0.55, standoff -0.05, extent 2.202,1.2 2.798,1.8
3D body: height 0.55, standoff -0.05, extent 3.202,1.2 3.798,1.8
3D body: height 0.55, standoff -0.05, extent 4.202,1.2 4.798,1.8
3D body: height 0.55, standoff -0.05, extent 5.202,1.2 5.798,1.8
3D body: height 0.55, standoff -0.05, extent 6.202,1.2 6.798,1.8
3D body: height 0.55, standoff -0.05, extent 7.202,1.2 7.798,1.8
3D body: height 0.55, standoff -0.05, extent 8.202,1.2 8.798,1.8
3D body: height 0.55, standoff -0.05, extent -7.798,1.2 -7.202,1.8
3D body: height 0.55, standoff -0.05, extent -6.798,1.2 -6.202,1.8
3D body: height 0.55, standoff -0.05, extent -5.798,1.2 -5.202,1.8
3D body: height 0.55, standoff -0.05, extent -4.798,1.2 -4.202,1.8
3D body: height 0.55, standoff -0.05, extent -3.798,1.2 -3.202,1.8
3D body: height 0.55, standoff -0.05, extent -2.798,1.2 -2.202,1.8
3D body: height 0.55, standoff -0.05, extent -1.798,1.2 -1.202,1.8
3D body: height 0.55, standoff -0.05, extent -0.798,1.2 -0.202,1.8
3D body: height 0.55, standoff -0.05, extent 0.202,1.2 0.798,1.8
3D body: height 0.55, standoff -0.05, extent -16.798,1.2 -16.202,1.8
3D body: height 0.55, standoff -0.05, extent -15.798,1.2 -15.202,1.8
3D body: height 0.55, standoff -0.05, extent -14.798,1.2 -14.202,1.8
3D body: height 0.55, standoff -0.05, extent -13.798,1.2 -13.202,1.8
3D body: height 0.55, standoff -0.05, extent -12.798,1.2 -12.202,1.8
3D body: height 0.55, standoff -0.05, extent -11.798,1.2 -11.202,1.8
3D body: height 0.55, standoff -0.05, extent -10.798,1.2 -10.202,1.8
3D body: height 0.55, standoff -0.05, extent -9.798,1.2 -9.202,1.8
3D body: height 0.55, standoff -0.05, extent -8.798,1.2 -8.202,1.8
3D body: height 0.55, standoff -0.05, extent 1.202,0.2 1.798,0.8
3D body: height 0.55, standoff -0.05, extent 2.202,0.2 2.798,0.8
3D body: height 0.55, standoff -0.05, extent 3.202,0.2 3.798,0.8
3D body: height 0.55, standoff -0.05, extent 4.202,0.2 4.798,0.8
3D body: height 0.55, standoff -0.05, extent 5.202,0.2 5.798,0.8
3D body: height 0.55, standoff -0.05, extent 6.202,0.2 6.798,0.8
3D body: height 0.55, standoff -0.05, extent 7.202,0.2 7.798,0.8
3D body: height 0.55, standoff -0.05, extent 8.202,0.2 8.798,0.8
3D body: height 0.55, standoff -0.05, extent -7.798,0.2 -7.202,0.8
3D body: height 0.55, standoff -0.05, extent -6.798,0.2 -6.202,0.8
3D body: height 0.55, standoff -0.05, extent -5.798,0.2 -5.202,0.8
3D body: height 0.55, standoff -0.05, extent -4.798,0.2 -4.202,0.8
3D body: height 0.55, standoff -0.05, extent -3.798,0.2 -3.202,0.8
3D body: height 0.55, standoff -0.05, extent -2.798,0.2 -2.202,0.8
3D body: height 0.55, standoff -0.05, extent -1.798,0.2 -1.202,0.8
3D body: height 0.55, standoff -0.05, extent -0.798,0.2 -0.202,0.8
3D body: height 0.55, standoff -0.05, extent 0.202,0.2 0.798,0.8
3D body: height 0.55, standoff -0.05, extent -16.798,0.2 -16.202,0.8
3D body: height 0.55, standoff -0.05, extent -15.798,0.2 -15.202,0.8
3D body: height 0.55, standoff -0.05, extent -14.798,0.2 -14.202,0.8
3D body: height 0.55, standoff -0.05, extent -13.798,0.2 -13.202,0.8
3D body: height 0.55, standoff -0.05, extent -12.798,0.2 -12.202,0.8
3D body: height 0.55, standoff -0.05, extent -11.798,0.2 -11.202,0.8
3D body: height 0.55, standoff -0.05, extent -10.798,0.2 -10.202,0.8
3D body: height 0.55, standoff -0.05, extent -9.798,0.2 -9.202,0.8
3D body: height 0.55, standoff -0.05, extent -8.798,0.2 -8.202,0.8
3D body: height 0.55, standoff -0.05, extent 1.202,-0.8 1.798,-0.2
3D body: height 0.55, standoff -0.05, extent 2.202,-0.8 2.798,-0.2
3D body: height 0.55, standoff -0.05, extent 3.202,-0.8 3.798,-0.2
3D body: height 0.55, standoff -0.05, extent 4.202,-0.8 4.798,-0.2
3D body: height 0.55, standoff -0.05, extent 5.202,-0.8 5.798,-0.2
3D body: height 0.55, standoff -0.05, extent 6.202,-0.8 6.798,-0.2
3D body: height 0.55, standoff -0.05, extent 7.202,-0.8 7.798,-0.2
3D body: height 0.55, standoff -0.05, extent 8.202,-0.8 8.798,-0.2
3D body: height 0.55, standoff -0.05, extent -7.798,-0.8 -7.202,-0.2
3D body: height 0.55, standoff -0.05, extent -6.798,-0.8 -6.202,-0.2
3D body: height 0.55, standoff -0.05, extent -5.798,-0.8 -5.202,-0.2
3D body: height 0.55, standoff -0.05, extent -4.798,-0.8 -4.202,-0.2
3D body: height 0.55, standoff -0.05, extent -3.798,-0.8 -3.202,-0.2
3D body: height 0.55, standoff -0.05, extent -2.798,-0.8 -2.202,-0.2
3D body: height 0.55, standoff -0.05, extent -1.798,-0.8 -1.202,-0.2
3D body: height 0.55, standoff -0.05, extent -0.798,-0.8 -0.202,-0.2
3D body: height 0.55, standoff -0.05, extent 0.202,-0.8 0.798,-0.2
3D body: height 0.55, standoff -0.05, extent -16.798,-0.8 -16.202,-0.2
3D body: height 0.55, standoff -0.05, extent -15.798,-0.8 -15.202,-0.2
3D body: height 0.55, standoff -0.05, extent -14.798,-0.8 -14.202,-0.2
3D body: height 0.55, standoff -0.05, extent -13.798,-0.8 -13.202,-0.2
3D body: height 0.55, standoff -0.05, extent -12.798,-0.8 -12.202,-0.2
3D body: height 0.55, standoff -0.05, extent -11.798,-0.8 -11.202,-0.2
3D body: height 0.55, standoff -0.05, extent -10.798,-0.8 -10.202,-0.2
3D body: height 0.55, standoff -0.05, extent -9.798,-0.8 -9.202,-0.2
3D body: height 0.55, standoff -0.05, extent -8.798,-0.8 -8.202,-0.2
3D body: height 0.55, standoff -0.05, extent 1.202,-1.8 1.798,-1.2
3D body: height 0.55, standoff -0.05, extent 2.202,-1.8 2.798,-1.2
3D body: height 0.55, standoff -0.05, extent 3.202,-1.8 3.798,-1.2
3D body: height 0.55, standoff -0.05, extent 4.202,-1.8 4.798,-1.2
3D body: height 0.55, standoff -0.05, extent 5.202,-1.8 5.798,-1.2
3D body: height 0.55, standoff -0.05, extent 6.202,-1.8 6.798,-1.2
3D body: height 0.55, standoff -0.05, extent 7.202,-1.8 7.798,-1.2
3D body: height 0.55, standoff -0.05, extent 8.202,-1.8 8.798,-1.2
3D body: height 0.55, standoff -0.05, extent -7.798,-1.8 -7.202,-1.2
3D body: height 0.55, standoff -0.05, extent -6.798,-1.8 -6.202,-1.2
3D body: height 0.55, standoff -0.05, extent -5.798,-1.8 -5.202,-1.2
3D body: height 0.55, standoff -0.05, extent -4.798,-1.8 -4.202,-1.2
3D body: height 0.55, standoff -0.05, extent -3.798,-1.8 -3.202,-1.2
3D body: height 0.55, standoff -0.05, extent -2.798,-1.8 -2.202,-1.2
3D body: height 0.55, standoff -0.05, extent -1.798,-1.8 -1.202,-1.2
3D body: height 0.55, standoff -0.05, extent -0.798,-1.8 -0.202,-1.2
3D body: height 0.55, standoff -0.05, extent 0.202,-1.8 0.798,-1.2
3D body: height 0.55, standoff -0.05, extent -16.798,-1.8 -16.202,-1.2
3D body: height 0.55, standoff -0.05, extent -15.798,-1.8 -15.202,-1.2
3D body: height 0.55, standoff -0.05, extent -14.798,-1.8 -14.202,-1.2
3D body: height 0.55, standoff -0.05, extent -13.798,-1.8 -13.202,-1.2
3D body: height 0.55, standoff -0.05, extent -12.798,-1.8 -12.202,-1.2
3D body: height 0.55, standoff -0.05, extent -11.798,-1.8 -11.202,-1.2
3D body: height 0.55, standoff -0.05, extent -10.798,-1.8 -10.202,-1.2
3D body: height 0.55, standoff -0.05, extent -9.798,-1.8 -9.202,-1.2
3D body: height 0.55, standoff -0.05, extent -8.798,-1.8 -8.202,-1.2
3D body: height 0.55, standoff -0.05, extent 1.202,-2.8 1.798,-2.2
3D body: height 0.55, standoff -0.05, extent 2.202,-2.8 2.798,-2.2
3D body: height 0.55, standoff -0.05, extent 3.202,-2.8 3.798,-2.2
3D body: height 0.55, standoff -0.05, extent 4.202,-2.8 4.798,-2.2
3D body: height 0.55, standoff -0.05, extent 5.202,-2.8 5.798,-2.2
3D body: height 0.55, standoff -0.05, extent 6.202,-2.8 6.798,-2.2
3D body: height 0.55, standoff -0.05, extent 7.202,-2.8 7.798,-2.2
3D body: height 0.55, standoff -0.05, extent 8.202,-2.8 8.798,-2.2
3D body: height 0.55, standoff -0.05, extent -7.798,-2.8 -7.202,-2.2
3D body: height 0.55, standoff -0.05, extent -6.798,-2.8 -6.202,-2.2
3D body: height 0.55, standoff -0.05, extent -5.798,-2.8 -5.202,-2.2
3D body: height 0.55, standoff -0.05, extent -4.798,-2.8 -4.202,-2.2
3D body: height 0.55, standoff -0.05, extent -3.798,-2.8 -3.202,-2.2
3D body: height 0.55, standoff -0.05, extent -2.798,-2.8 -2.202,-2.2
3D body: height 0.55, standoff -0.05, extent -1.798,-2.8 -1.202,-2.2
3D body: height 0.55, standoff -0.05, extent -0.798,-2.8 -0.202,-2.2
3D body: height 0.55, standoff -0.05, extent 0.202,-2.8 0.798,-2.2
3D body: height 0.55, standoff -0.05, extent -16.798,-2.8 -16.202,-2.2
3D body: height 0.55, standoff -0.05, extent -15.798,-2.8 -15.202,-2.2
3D body: height 0.55, standoff -0.05, extent -14.798,-2.8 -14.202,-2.2
3D body: height 0.55, standoff -0.05, extent -13.798,-2.8 -13.202,-2.2
3D body: height 0.55, standoff -0.05, extent -12.798,-2.8 -12.202,-2.2
3D body: height 0.55, standoff -0.05, extent -11.798,-2.8 -11.202,-2.2
3D body: height 0.55, standoff -0.05, extent -10.798,-2.8 -10.202,-2.2
3D body: height 0.55, standoff -0.05, extent -9.798,-2.8 -9.202,-2.2
3D body: height 0.55, standoff -0.05, extent -8.798,-2.8 -8.202,-2.2
3D body: height 0.55, standoff -0.05, extent 1.202,-3.8 1.798,-3.2
3D body: height 0.55, standoff -0.05, extent 2.202,-3.8 2.798,-3.2
3D body: height 0.55, standoff -0.05, extent 3.202,-3.8 3.798,-3.2
3D body: height 0.55, standoff -0.05, extent 4.202,-3.8 4.798,-3.2
3D body: height 0.55, standoff -0.05, extent 5.202,-3.8 5.798,-3.2
3D body: height 0.55, standoff -0.05, extent 6.202,-3.8 6.798,-3.2
3D body: height 0.55, standoff -0.05, extent 7.202,-3.8 7.798,-3.2
3D body: height 0.55, standoff -0.05, extent 8.202,-3.8 8.798,-3.2
3D body: height 0.55, standoff -0.05, extent -7.798,-3.8 -7.202,-3.2
3D body: height 0.55, standoff -0.05, extent -6.798,-3.8 -6.202,-3.2
3D body: height 0.55, standoff -0.05, extent -5.798,-3.8 -5.202,-3.2
3D body: height 0.55, standoff -0.05, extent -4.798,-3.8 -4.202,-3.2
3D body: height 0.55, standoff -0.05, extent -3.798,-3.8 -3.202,-3.2
3D body: height 0.55, standoff -0.05, extent -2.798,-3.8 -2.202,-3.2
3D body: height 0.55, standoff -0.05, extent -1.798,-3.8 -1.202,-3.2
3D body: height 0.55, standoff -0.05, extent -0.798,-3.8 -0.202,-3.2
3D body: height 0.55, standoff -0.05, extent 0.202,-3.8 0.798,-3.2
3D body: height 0.55, standoff -0.05, extent -16.798,-3.8 -16.202,-3.2
3D body: height 0.55, standoff -0.05, extent -15.798,-3.8 -15.202,-3.2
3D body: height 0.55, standoff -0.05, extent -14.798,-3.8 -14.202,-3.2
3D body: height 0.55, standoff -0.05, extent -13.798,-3.8 -13.202,-3.2
3D body: height 0.55, standoff -0.05, extent -12.798,-3.8 -12.202,-3.2
3D body: height 0.55, standoff -0.05, extent -11.798,-3.8 -11.202,-3.2
3D body: height 0.55, standoff -0.05, extent -10.798,-3.8 -10.202,-3.2
3D body: height 0.55, standoff -0.05, extent -9.798,-3.8 -9.202,-3.2
3D body: height 0.55, standoff -0.05, extent -8.798,-3.8 -8.202,-3.2
3D body: height 0.55, standoff -0.05, extent 1.202,-4.8 1.798,-4.2
3D body: height 0.55, standoff -0.05, extent 2.202,-4.8 2.798,-4.2
3D body: height 0.55, standoff -0.05, extent 3.202,-4.8 3.798,-4.2
3D body: height 0.55, standoff -0.05, extent 4.202,-4.8 4.798,-4.2
3D body: height 0.55, standoff -0.05, extent 5.202,-4.8 5.798,-4.2
3D body: height 0.55, standoff -0.05, extent 6.202,-4.8 6.798,-4.2
3D body: height 0.55, standoff -0.05, extent 7.202,-4.8 7.798,-4.2
3D body: height 0.55, standoff -0.05, extent 8.202,-4.8 8.798,-4.2
3D body: height 0.55, standoff -0.05, extent -7.798,-4.8 -7.202,-4.2
3D body: height 0.55, standoff -0.05, extent -6.798,-4.8 -6.202,-4.2
3D body: height 0.55, standoff -0.05, extent -5.798,-4.8 -5.202,-4.2
3D body: height 0.55, standoff -0.05, extent -4.798,-4.8 -4.202,-4.2
3D body: height 0.55, standoff -0.05, extent -3.798,-4.8 -3.202,-4.2
3D body: height 0.55, standoff -0.05, extent -2.798,-4.8 -2.202,-4.2
3D body: height 0.55, standoff -0.05, extent -1.798,-4.8 -1.202,-4.2
3D body: height 0.55, standoff -0.05, extent -0.798,-4.8 -0.202,-4.2
3D body: height 0.55, standoff -0.05, extent 0.202,-4.8 0.798,-4.2
3D body: height 0.55, standoff -0.05, extent -16.798,-4.8 -16.202,-4.2
3D body: height 0.55, standoff -0.05, extent -15.798,-4.8 -15.202,-4.2
3D body: height 0.55, standoff -0.05, extent -14.798,-4.8 -14.202,-4.2
3D body: height 0.55, standoff -0.05, extent -13.798,-4.8 -13.202,-4.2
3D body: height 0.55, standoff -0.05, extent -12.798,-4.8 -12.202,-4.2
3D body: height 0.55, standoff -0.05, extent -11.798,-4.8 -11.202,-4.2
3D body: height 0.55, standoff -0.05, extent -10.798,-4.8 -10.202,-4.2
3D body: height 0.55, standoff -0.05, extent -9.798,-4.8 -9.202,-4.2
3D body: height 0.55, standoff -0.05, extent -8.798,-4.8 -8.202,-4.2
3D body: height 0.55, standoff -0.05, extent 1.202,-5.8 1.798,-5.2
3D body: height 0.55, standoff -0.05, extent 2.202,-5.8 2.798,-5.2
3D body: height 0.55, standoff -0.05, extent 3.202,-5.8 3.798,-5.2
3D body: height 0.55, standoff -0.05, extent 4.202,-5.8 4.798,-5.2
3D body: height 0.55, standoff -0.05, extent 5.202,-5.8 5.798,-5.2
3D body: height 0.55, standoff -0.05, extent 6.202,-5.8 6.798,-5.2
3D body: height 0.55, standoff -0.05, extent 7.202,-5.8 7.798,-5.2
3D body: height 0.55, standoff -0.05, extent 8.202,-5.8 8.798,-5.2
3D body: height 0.55, standoff -0.05, extent -7.798,-5.8 -7.202,-5.2
3D body: height 0.55, standoff -0.05, extent -6.798,-5.8 -6.202,-5.2
3D body: height 0.55, standoff -0.05, extent -5.798,-5.8 -5.202,-5.2
3D body: height 0.55, standoff -0.05, extent -4.798,-5.8 -4.202,-5.2
3D body: height 0.55, standoff -0.05, extent -3.798,-5.8 -3.202,-5.2
3D body: height 0.55, standoff -0.05, extent -2.798,-5.8 -2.202,-5.2
3D body: height 0.55, standoff -0.05, extent -1.798,-5.8 -1.202,-5.2
3D body: height 0.55, standoff -0.05, extent -0.798,-5.8 -0.202,-5.2
3D body: height 0.55, standoff -0.05, extent 0.202,-5.8 0.798,-5.2
3D body: height 0.55, standoff -0.05, extent -16.798,-5.8 -16.202,-5.2
3D body: height 0.55, standoff -0.05, extent -15.798,-5.8 -15.202,-5.2
3D body: height 0.55, standoff -0.05, extent -14.798,-5.8 -14.202,-5.2
3D body: height 0.55, standoff -0.05, extent -13.798,-5.8 -13.202,-5.2
3D body: height 0.55, standoff -0.05, extent -12.798,-5.8 -12.202,-5.2
3D body: height 0.55, standoff -0.05, extent -11.798,-5.8 -11.202,-5.2
3D body: height 0.55, standoff -0.05, extent -10.798,-5.8 -10.202,-5.2
3D body: height 0.55, standoff -0.05, extent -9.798,-5.8 -9.202,-5.2
3D body: height 0.55, standoff -0.05, extent -8.798,-5.8 -8.202,-5.2
3D body: height 0.55, standoff -0.05, extent 1.202,-6.8 1.798,-6.2
3D body: height 0.55, standoff -0.05, extent 2.202,-6.8 2.798,-6.2
3D body: height 0.55, standoff -0.05, extent 3.202,-6.8 3.798,-6.2
3D body: height 0.55, standoff -0.05, extent 4.202,-6.8 4.798,-6.2
3D body: height 0.55, standoff -0.05, extent 5.202,-6.8 5.798,-6.2
3D body: height 0.55, standoff -0.05, extent 6.202,-6.8 6.798,-6.2
3D body: height 0.55, standoff -0.05, extent 7.202,-6.8 7.798,-6.2
3D body: height 0.55, standoff -0.05, extent 8.202,-6.8 8.798,-6.2
3D body: height 0.55, standoff -0.05, extent -7.798,-6.8 -7.202,-6.2
3D body: height 0.55, standoff -0.05, extent -6.798,-6.8 -6.202,-6.2
3D body: height 0.55, standoff -0.05, extent -5.798,-6.8 -5.202,-6.2
3D body: height 0.55, standoff -0.05, extent -4.798,-6.8 -4.202,-6.2
3D body: height 0.55, standoff -0.05, extent -3.798,-6.8 -3.202,-6.2
3D body: height 0.55, standoff -0.05, extent -2.798,-6.8 -2.202,-6.2
3D body: height 0.55, standoff -0.05, extent -1.798,-6.8 -1.202,-6.2
3D body: height 0.55, standoff -0.05, extent -0.798,-6.8 -0.202,-6.2
3D body: height 0.55, standoff -0.05, extent 0.202,-6.8 0.798,-6.2
3D body: height 0.55, standoff -0.05, extent -16.798,-6.8 -16.202,-6.2
3D body: height 0.55, standoff -0.05, extent -15.798,-6.8 -15.202,-6.2
3D body: height 0.55, standoff -0.05, extent -14.798,-6.8 -14.202,-6.2
3D body: height 0.55, standoff -0.05, extent -13.798,-6.8 -13.202,-6.2
3D body: height 0.55, standoff -0.05, extent -12.798,-6.8 -12.202,-6.2
3D body: height 0.55, standoff -0.05, extent -11.798,-6.8 -11.202,-6.2
3D body: height 0.55, standoff -0.05, extent -10.798,-6.8 -10.202,-6.2
3D body: height 0.55, standoff -0.05, extent -9.798,-6.8 -9.202,-6.2
3D body: height 0.55, standoff -0.05, extent -8.798,-6.8 -8.202,-6.2
3D body: height 0.55, standoff -0.05, extent 1.202,-7.8 1.798,-7.2
3D body: height 0.55, standoff -0.05, extent 2.202,-7.8 2.798,-7.2
3D body: height 0.55, standoff -0.05, extent 3.202,-7.8 3.798,-7.2
3D body: height 0.55, standoff -0.05, extent 4.202,-7.8 4.798,-7.2
3D body: height 0.55, standoff -0.05, extent 5.202,-7.8 5.798,-7.2
3D body: height 0.55, standoff -0.05, extent 6.202,-7.8 6.798,-7.2
3D body: height 0.55, standoff -0.05, extent 7.202,-7.8 7.798,-7.2
3D body: height 0.55, standoff -0.05, extent 8.202,-7.8 8.798,-7.2
3D body: height 0.55, standoff -0.05, extent -7.798,-7.8 -7.202,-7.2
3D body: height 0.55, standoff -0.05, extent -6.798,-7.8 -6.202,-7.2
3D body: height 0.55, standoff -0.05, extent -5.798,-7.8 -5.202,-7.2
3D body: height 0.55, standoff -0.05, extent -4.798,-7.8 -4.202,-7.2
3D body: height 0.55, standoff -0.05, extent -3.798,-7.8 -3.202,-7.2
3D body: height 0.55, standoff -0.05, extent -2.798,-7.8 -2.202,-7.2
3D body: height 0.55, standoff -0.05, extent -1.798,-7.8 -1.202,-7.2
3D body: height 0.55, standoff -0.05, extent -0.798,-7.8 -0.202,-7.2
3D body: height 0.55, standoff -0.05, extent 0.202,-7.8 0.798,-7.2
3D body: height 0.55, standoff -0.05, extent -16.798,-7.8 -16.202,-7.2
3D body: height 0.55, standoff -0.05, extent -15.798,-7.8 -15.202,-7.2
3D body: height 0.55, standoff -0.05, extent -14.798,-7.8 -14.202,-7.2
3D body: height 0.55, standoff -0.05, extent -13.798,-7.8 -13.202,-7.2
3D body: height 0.55, standoff -0.05, extent -12.798,-7.8 -12.202,-7.2
3D body: height 0.55, standoff -0.05, extent -11.798,-7.8 -11.202,-7.2
3D body: height 0.55, standoff -0.05, extent -10.798,-7.8 -10.202,-7.2
3D body: height 0.55, standoff -0.05, extent -9.798,-7.8 -9.202,-7.2
3D body: height 0.55, standoff -0.05, extent -8.798,-7.8 -8.202,-7.2
3D body: height 0.55, standoff -0.05, extent 1.202,-8.8 1.798,-8.2
3D body: height 0.55, standoff -0.05, extent 2.202,-8.8 2.798,-8.2
3D body: height 0.55, standoff -0.05, extent 3.202,-8.8 3.798,-8.2
3D body: height 0.55, standoff -0.05, extent 4.202,-8.8 4.798,-8.2
3D body: height 0.55, standoff -0.05, extent 5.202,-8.8 5.798,-8.2
3D body: height 0.55, standoff -0.05, extent 6.202,-8.8 6.798,-8.2
3D body: height 0.55, standoff -0.05, extent 7.202,-8.8 7.798,-8.2
3D body: height 0.55, standoff -0.05, extent 8.202,-8.8 8.798,-8.2
3D body: height 0.55, standoff -0.05, extent -7.798,-8.8 -7.202,-8.2
3D body: height 0.55, standoff -0.05, extent -6.798,-8.8 -6.202,-8.2
3D body: height 0.55, standoff -0.05, extent -5.798,-8.8 -5.202,-8.2
3D body: height 0.55, standoff -0.05, extent -4.798,-8.8 -4.202,-8.2
3D body: height 0.55, standoff -0.05, extent -3.798,-8.8 -3.202,-8.2
3D body: height 0.55, standoff -0.05, extent -2.798,-8.8 -2.202,-8.2
3D body: height 0.55, standoff -0.05, extent -1.798,-8.8 -1.202,-8.2
3D body: height 0.55, standoff -0.05, extent -0.798,-8.8 -0.202,-8.2
3D body: height 0.55, standoff -0.05, extent 0.202,-8.8 0.798,-8.2
3D body: height 0.55, standoff -0.05, extent -16.798,-8.8 -16.202,-8.2
3D body: height 0.55, standoff -0.05, extent -15.798,-8.8 -15.202,-8.2
3D body: height 0.55, standoff -0.05, extent -14.798,-8.8 -14.202,-8.2
3D body: height 0.55, standoff -0.05, extent -13.798,-8.8 -13.202,-8.2
3D body: height 0.55, standoff -0.05, extent -12.798,-8.8 -12.202,-8.2
3D body: height 0.55, standoff -0.05, extent -11.798,-8.8 -11.202,-8.2
3D body: height 0.55, standoff -0.05, extent -10.798,-8.8 -10.202,-8.2
3D body: height 0.55, standoff -0.05, extent -9.798,-8.8 -9.202,-8.2
3D body: height 0.55, standoff -0.05, extent -8.798,-8.8 -8.202,-8.2
3D body: height 0.55, standoff -0.05, extent 1.202,-9.8 1.798,-9.2
3D body: height 0.55, standoff -0.05, extent 2.202,-9.8 2.798,-9.2
3D body: height 0.55, standoff -0.05, extent 3.202,-9.8 3.798,-9.2
3D body: height 0.55, standoff -0.05, extent 4.202,-9.8 4.798,-9.2
3D body: height 0.55, standoff -0.05, extent 5.202,-9.8 5.798,-9.2
3D body: height 0.55, standoff -0.05, extent 6.202,-9.8 6.798,-9.2
3D body: height 0.55, standoff -0.05, extent 7.202,-9.8 7.798,-9.2
3D body: height 0.55, standoff -0.05, extent 8.202,-9.8 8.798,-9.2
3D body: height 0.55, standoff -0.05, extent -7.798,-9.8 -7.202,-9.2
3D body: height 0.55, standoff -0.05, extent -6.798,-9.8 -6.202,-9.2
3D body: height 0.55, standoff -0.05, extent -5.798,-9.8 -5.202,-9.2
3D body: height 0.55, standoff -0.05, extent -4.798,-9.8 -4.202,-9.2
3D body: height 0.55, standoff -0.05, extent -3.798,-9.8 -3.202,-9.2
3D body: height 0.55, standoff -0.05, extent -2.798,-9.8 -2.202,-9.2
3D body: height 0.55, standoff -0.05, extent -1.798,-9.8 -1.202,-9.2
3D body: height 0.55, standoff -0.05, extent -0.798,-9.8 -0.202,-9.2
3D body: height 0.55, standoff -0.05, extent 0.202,-9.8 0.798,-9.2
3D body: height 0.55, standoff -0.05, extent -16.798,-9.8 -16.202,-9.2
3D body: height 0.55, standoff -0.05, extent -15.798,-9.8 -15.202,-9.2
3D body: height 0.55, standoff -0.05, extent -14.798,-9.8 -14.202,-9.2
3D body: height 0.55, standoff -0.05, extent -13.798,-9.8 -13.202,-9.2
3D body: height 0.55, standoff -0.05, extent -12.798,-9.8 -12.202,-9.2
3D body: height 0.55, standoff -0.05, extent -11.798,-9.8 -11.202,-9.2
3D body: height 0.55, standoff -0.05, extent -10.798,-9.8 -10.202,-9.2
3D body: height 0.55, standoff -0.05, extent -9.798,-9.8 -9.202,-9.2
3D body: height 0.55, standoff -0.05, extent -8.798,-9.8 -8.202,-9.2
3D body: height 0.55, standoff -0.05, extent 1.202,-10.8 1.798,-10.2
3D body: height 0.55, standoff -0.05, extent 2.202,-10.8 2.798,-10.2
3D body: height 0.55, standoff -0.05, extent 3.202,-10.8 3.798,-10.2
3D body: height 0.55, standoff -0.05, extent 4.202,-10.8 4.798,-10.2
3D body: height 0.55, standoff -0.05, extent 5.202,-10.8 5.798,-10.2
3D body: height 0.55, standoff -0.05, extent 6.202,-10.8 6.798,-10.2
3D body: height 0.55, standoff -0.05, extent 7.202,-10.8 7.798,-10.2
3D body: height 0.55, standoff -0.05, extent 8.202,-10.8 8.798,-10.2
3D body: height 0.55, standoff -0.05, extent -7.798,-10.8 -7.202,-10.2
3D body: height 0.55, standoff -0.05, extent -6.798,-10.8 -6.202,-10.2
3D body: height 0.55, standoff -0.05, extent -5.798,-10.8 -5.202,-10.2
3D body: height 0.55, standoff -0.05, extent -4.798,-10.8 -4.202,-10.2
3D body: height 0.55, standoff -0.05, extent -3.798,-10.8 -3.202,-10.2
3D body: height 0.55, standoff -0.05, extent -2.798,-10.8 -2.202,-10.2
3D body: height 0.55, standoff -0.05, extent -1.798,-10.8 -1.202,-10.2
3D body: height 0.55, standoff -0.05, extent -0.798,-10.8 -0.202,-10.2
3D body: height 0.55, standoff -0.05, extent 0.202,-10.8 0.798,-10.2
3D body: height 0.55, standoff -0.05, extent -16.798,-10.8 -16.202,-10.2
3D body: height 0.55, standoff -0.05, extent -15.798,-10.8 -15.202,-10.2
3D body: height 0.55, standoff -0.05, extent -14.798,-10.8 -14.202,-10.2
3D body: height 0.55, standoff -0.05, extent -13.798,-10.8 -13.202,-10.2
3D body: height 0.55, standoff -0.05, extent -12.798,-10.8 -12.202,-10.2
3D body: height 0.55, standoff -0.05, extent -11.798,-10.8 -11.202,-10.2
3D body: height 0.55, standoff -0.05, extent -10.798,-10.8 -10.202,-10.2
3D body: height 0.55, standoff -0.05, extent -9.798,-10.8 -9.202,-10.2
3D body: height 0.55, standoff -0.05, extent -8.798,-10.8 -8.202,-10.2
3D body: height 0.55, standoff -0.05, extent 1.202,-11.8 1.798,-11.2
3D body: height 0.55, standoff -0.05, extent 2.202,-11.8 2.798,-11.2
3D body: height 0.55, standoff -0.05, extent 3.202,-11.8 3.798,-11.2
3D body: height 0.55, standoff -0.05, extent 4.202,-11.8 4.798,-11.2
3D body: height 0.55, standoff -0.05, extent 5.202,-11.8 5.798,-11.2
3D body: height 0.55, standoff -0.05, extent 6.202,-11.8 6.798,-11.2
3D body: height 0.55, standoff -0.05, extent 7.202,-11.8 7.798,-11.2
3D body: height 0.55, standoff -0.05, extent 8.202,-11.8 8.798,-11.2
3D body: height 0.55, standoff -0.05, extent -7.798,-11.8 -7.202,-11.2
3D body: height 0.55, standoff -0.05, extent -6.798,-11.8 -6.202,-11.2
3D body: height 0.55, standoff -0.05, extent -5.798,-11.8 -5.202,-11.2
3D body: height 0.55, standoff -0.05, extent -4.798,-11.8 -4.202,-11.2
3D body: height 0.55, standoff -0.05, extent -3.798,-11.8 -3.202,-11.2
3D body: height 0.55, standoff -0.05, extent -2.798,-11.8 -2.202,-11.2
3D body: height 0.55, standoff -0.05, extent -1.798,-11.8 -1.202,-11.2
3D body: height 0.55, standoff -0.05, extent -0.798,-11.8 -0.202,-11.2
3D body: height 0.55, standoff -0.05, extent 0.202,-11.8 0.798,-11.2
3D body: height 0.55, standoff -0.05, extent -16.798,-11.8 -16.202,-11.2
3D body: height 0.55, standoff -0.05, extent -15.798,-11.8 -15.202,-11.2
3D body: height 0.55, standoff -0.05, extent -14.798,-11.8 -14.202,-11.2
3D body: height 0.55, standoff -0.05, extent -13.798,-11.8 -13.202,-11.2
3D body: height 0.55, standoff -0.05, extent -12.798,-11.8 -12.202,-11.2
3D body: height 0.55, standoff -0.05, extent -11.798,-11.8 -11.202,-11.2
3D body: height 0.55, standoff -0.05, extent -10.798,-11.8 -10.202,-11.2
3D body: height 0.55, standoff -0.05, extent -9.798,-11.8 -9.202,-11.2
3D body: height 0.55, standoff -0.05, extent -8.798,-11.8 -8.202,-11.2
3D body: height 0.55, standoff -0.05, extent 1.202,-12.8 1.798,-12.2
3D body: height 0.55, standoff -0.05, extent 2.202,-12.8 2.798,-12.2
3D body: height 0.55, standoff -0.05, extent 3.202,-12.8 3.798,-12.2
3D body: height 0.55, standoff -0.05, extent 4.202,-12.8 4.798,-12.2
3D body: height 0.55, standoff -0.05, extent 5.202,-12.8 5.798,-12.2
3D body: height 0.55, standoff -0.05, extent 6.202,-12.8 6.798,-12.2
3D body: height 0.55, standoff -0.05, extent 7.202,-12.8 7.798,-12.2
3D body: height 0.55, standoff -0.05, extent 8.202,-12.8 8.798,-12.2
3D body: height 0.55, standoff -0.05, extent -7.798,-12.8 -7.202,-12.2
3D body: height 0.55, standoff -0.05, extent -6.798,-12.8 -6.202,-12.2
3D body: height 0.55, standoff -0.05, extent -5.798,-12.8 -5.202,-12.2
3D body: height 0.55, standoff -0.05, extent -4.798,-12.8 -4.202,-12.2
3D body: height 0.55, standoff -0.05, extent -3.798,-12.8 -3.202,-12.2
3D body: height 0.55, standoff -0.05, extent -2.798,-12.8 -2.202,-12.2
3D body: height 0.55, standoff -0.05, extent -1.798,-12.8 -1.202,-12.2
3D body: height 0.55, standoff -0.05, extent -0.798,-12.8 -0.202,-12.2
3D body: height 0.55, standoff -0.05, extent 0.202,-12.8 0.798,-12.2
3D body: height 0.55, standoff -0.05, extent -16.798,-12.8 -16.202,-12.2
3D body: height 0.55, standoff -0.05, extent -15.798,-12.8 -15.202,-12.2
3D body: height 0.55, standoff -0.05, extent -14.798,-12.8 -14.202,-12.2
3D body: height 0.55, standoff -0.05, extent -13.798,-12.8 -13.202,-12.2
3D body: height 0.55, standoff -0.05, extent -12.798,-12.8 -12.202,-12.2
3D body: height 0.55, standoff -0.05, extent -11.798,-12.8 -11.202,-12.2
3D body: height 0.55, standoff -0.05, extent -10.798,-12.8 -10.202,-12.2
3D body: height 0.55, standoff -0.05, extent -9.798,-12.8 -9.202,-12.2
3D body: height 0.55, standoff -0.05, extent -8.798,-12.8 -8.202,-12.2
3D body: height 0.55, standoff -0.05, extent 1.202,-13.8 1.798,-13.2
3D body: height 0.55, standoff -0.05, extent 2.202,-13.8 2.798,-13.2
3D body: height 0.55, standoff -0.05, extent 3.202,-13.8 3.798,-13.2
3D body: height 0.55, standoff -0.05, extent 4.202,-13.8 4.798,-13.2
3D body: height 0.55, standoff -0.05, extent 5.202,-13.8 5.798,-13.2
3D body: height 0.55, standoff -0.05, extent 6.202,-13.8 6.798,-13.2
3D body: height 0.55, standoff -0.05, extent 7.202,-13.8 7.798,-13.2
3D body: height 0.55, standoff -0.05, extent 8.202,-13.8 8.798,-13.2
3D body: height 0.55, standoff -0.05, extent -7.798,-13.8 -7.202,-13.2
3D body: height 0.55, standoff -0.05, extent -6.798,-13.8 -6.202,-13.2
3D body: height 0.55, standoff -0.05, extent -5.798,-13.8 -5.202,-13.2
3D body: height 0.55, standoff -0.05, extent -4.798,-13.8 -4.202,-13.2
3D body: height 0.55, standoff -0.05, extent -3.798,-13.8 -3.202,-13.2
3D body: height 0.55, standoff -0.05, extent -2.798,-13.8 -2.202,-13.2
3D body: height 0.55, standoff -0.05, extent -1.798,-13.8 -1.202,-13.2
3D body: height 0.55, standoff -0.05, extent -0.798,-13.8 -0.202,-13.2
3D body: height 0.55, standoff -0.05, extent 0.202,-13.8 0.798,-13.2
3D body: height 0.55, standoff -0.05, extent -16.798,-13.8 -16.202,-13.2
3D body: height 0.55, standoff -0.05, extent -15.798,-13.8 -15.202,-13.2
3D body: height 0.55, standoff -0.05, extent -14.798,-13.8 -14.202,-13.2
3D body: height 0.55, standoff -0.05, extent -13.798,-13.8 -13.202,-13.2
3D body: height 0.55, standoff -0.05, extent -12.798,-13.8 -12.202,-13.2
3D body: height 0.55, standoff -0.05, extent -11.798,-13.8 -11.202,-13.2
3D body: height 0.55, standoff -0.05, extent -10.798,-13.8 -10.202,-13.2
3D body: height 0.55, standoff -0.05, extent -9.798,-13.8 -9.202,-13.2
3D body: height 0.55, standoff -0.05, extent -8.798,-13.8 -8.202,-13.2
3D body: height 0.55, standoff -0.05, extent 1.202,-14.8 1.798,-14.2
3D body: height 0.55, standoff -0.05, extent 2.202,-14.8 2.798,-14.2
3D body: height 0.55, standoff -0.05, extent 3.202,-14.8 3.798,-14.2
3D body: height 0.55, standoff -0.05, extent 4.202,-14.8 4.798,-14.2
3D body: height 0.55, standoff -0.05, extent 5.202,-14.8 5.798,-14.2
3D body: height 0.55, standoff -0.05, extent 6.202,-14.8 6.798,-14.2
3D body: height 0.55, standoff -0.05, extent 7.202,-14.8 7.798,-14.2
3D body: height 0.55, standoff -0.05, extent 8.202,-14.8 8.798,-14.2
3D body: height 0.55, standoff -0.05, extent -7.798,-14.8 -7.202,-14.2
3D body: height 0.55, standoff -0.05, extent -6.798,-14.8 -6.202,-14.2
3D body: height 0.55, standoff -0.05, extent -5.798,-14.8 -5.202,-14.2
3D body: height 0.55, standoff -0.05, extent -4.798,-14.8 -4.202,-14.2
3D body: height 0.55, standoff -0.05, extent -3.798,-14.8 -3.202,-14.2
3D body: height 0.55, standoff -0.05, extent -2.798,-14.8 -2.202,-14.2
3D body: height 0.55, standoff -0.05, extent -1.798,-14.8 -1.202,-14.2
3D body: height 0.55, standoff -0.05, extent -0.798,-14.8 -0.202,-14.2
3D body: height 0.55, standoff -0.05, extent 0.202,-14.8 0.798,-14.2
3D body: height 0.55, standoff -0.05, extent -16.798,-14.8 -16.202,-14.2
3D body: height 0.55, standoff -0.05, extent -15.798,-14.8 -15.202,-14.2
3D body: height 0.55, standoff -0.05, extent -14.798,-14.8 -14.202,-14.2
3D body: height 0.55, standoff -0.05, extent -13.798,-14.8 -13.202,-14.2
3D body: height 0.55, standoff -0.05, extent -12.798,-14.8 -12.202,-14.2
3D body: height 0.55, standoff -0.05, extent -11.798,-14.8 -11.202,-14.2
3D body: height 0.55, standoff -0.05, extent -10.798,-14.8 -10.202,-14.2
3D body: height 0.55, standoff -0.05, extent -9.798,-14.8 -9.202,-14.2
3D body: height 0.55, standoff -0.05, extent -8.798,-14.8 -8.202,-14.2
3D body: height 0.55, standoff -0.05, extent 1.202,-15.8 1.798,-15.2
3D body: height 0.55, standoff -0.05, extent 2.202,-15.8 2.798,-15.2
3D body: height 0.55, standoff -0.05, extent 3.202,-15.8 3.798,-15.2
3D body: height 0.55, standoff -0.05, extent 4.202,-15.8 4.798,-15.2
3D body: height 0.55, standoff -0.05, extent 5.202,-15.8 5.798,-15.2
3D body: height 0.55, standoff -0.05, extent 6.202,-15.8 6.798,-15.2
3D body: height 0.55, standoff -0.05, extent 7.202,-15.8 7.798,-15.2
3D body: height 0.55, standoff -0.05, extent 8.202,-15.8 8.798,-15.2
3D body: height 0.55, standoff -0.05, extent -7.798,-15.8 -7.202,-15.2
3D body: height 0.55, standoff -0.05, extent -6.798,-15.8 -6.202,-15.2
3D body: height 0.55, standoff -0.05, extent -5.798,-15.8 -5.202,-15.2
3D body: height 0.55, standoff -0.05, extent -4.798,-15.8 -4.202,-15.2
3D body: height 0.55, standoff -0.05, extent -3.798,-15.8 -3.202,-15.2
3D body: height 0.55, standoff -0.05, extent -2.798,-15.8 -2.202,-15.2
3D body: height 0.55, standoff -0.05, extent -1.798,-15.8 -1.202,-15.2
3D body: height 0.55, standoff -0.05, extent -0.798,-15.8 -0.202,-15.2
3D body: height 0.55, standoff -0.05, extent 0.202,-15.8 0.798,-15.2
3D body: height 0.55, standoff -0.05, extent -16.798,-15.8 -16.202,-15.2
3D body: height 0.55, standoff -0.05, extent -15.798,-15.8 -15.202,-15.2
3D body: height 0.55, standoff -0.05, extent -14.798,-15.8 -14.202,-15.2
3D body: height 0.55, standoff -0.05, extent -13.798,-15.8 -13.202,-15.2
3D body: height 0.55, standoff -0.05, extent -12.798,-15.8 -12.202,-15.2
3D body: height 0.55, standoff -0.05, extent -11.798,-15.8 -11.202,-15.2
3D body: height 0.55, standoff -0.05, extent -10.798,-15.8 -10.202,-15.2
3D body: height 0.55, standoff -0.05, extent -9.798,-15.8 -9.202,-15.2
3D body: height 0.55, standoff -0.05, extent -8.798,-15.8 -8.202,-15.2
3D body: height 0.55, standoff -0.05, extent 1.202,-16.8 1.798,-16.2
3D body: height 0.55, standoff -0.05, extent 2.202,-16.8 2.798,-16.2
3D body: height 0.55, standoff -0.05, extent 3.202,-16.8 3.798,-16.2
3D body: height 0.55, standoff -0.05, extent 4.202,-16.8 4.798,-16.2
3D body: height 0.55, standoff -0.05, extent 5.202,-16.8 5.798,-16.2
3D body: height 0.55, standoff -0.05, extent 6.202,-16.8 6.798,-16.2
3D body: height 0.55, standoff -0.05, extent 7.202,-16.8 7.798,-16.2
3D body: height 0.55, standoff -0.05, extent 8.202,-16.8 8.798,-16.2
3D body: height 0.55, standoff -0.05, extent -7.798,-16.8 -7.202,-16.2
3D body: height 0.55, standoff -0.05, extent -6.798,-16.8 -6.202,-16.2
3D body: height 0.55, standoff -0.05, extent -5.798,-16.8 -5.202,-16.2
3D body: height 0.55, standoff -0.05, extent -4.798,-16.8 -4.202,-16.2
3D body: height 0.55, standoff -0.05, extent -3.798,-16.8 -3.202,-16.2
3D body: height 0.55, standoff -0.05, extent -2.798,-16.8 -2.202,-16.2
3D body: height 0.55, standoff -0.05, extent -1.798,-16.8 -1.202,-16.2
3D body: height 0.55, standoff -0.05, extent -0.798,-16.8 -0.202,-16.2
3D body: height 0.55, standoff -0.05, extent 0.202,-16.8 0.798,-16.2
3D body: height 0.55, standoff -0.05, extent -16.798,-16.8 -16.202,-16.2
3D body: height 0.55, standoff -0.05, extent -15.798,-16.8 -15.202,-16.2
3D body: height 0.55, standoff -0.05, extent -14.798,-16.8 -14.202,-16.2
3D body: height 0.55, standoff -0.05, extent -13.798,-16.8 -13.202,-16.2
3D body: height 0.55, standoff -0.05, extent -12.798,-16.8 -12.202,-16.2
3D body: height 0.55, standoff -0.05, extent -11.798,-16.8 -11.202,-16.2
3D body: height 0.55, standoff -0.05, extent -10.798,-16.8 -10.202,-16.2
3D body: height 0.55, standoff -0.05, extent -9.798,-16.8 -9.202,-16.2
3D body: height 0.55, standoff -0.05, extent -8.798,-16.8 -8.202,-16.2
3D body: height 1.8, standoff 0.5, extent -17.5,-17.5 17.5,17.5
3D body: height 2.51, standoff 2.4, extent -16.996,16.001 -16,16.999
3D body: height 2.5, standoff 1.8, extent -17.5,-17.5 17.5,17.5